# Altium integrated library Actel SX.IntLib: 328 symbols (part 16 of 24)
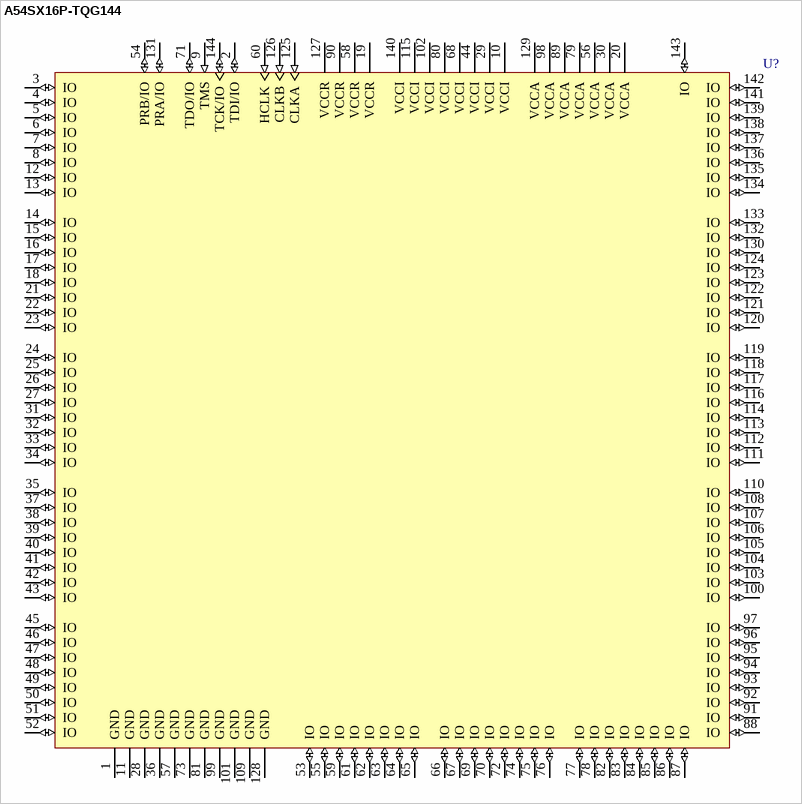
[diagram p247: symbol A54SX16P-TQG144]

## A54SX16P-TQG144
designator U?
54SX16 FPGA, 113 User IOs, 144-Pin TQFP, Speed Grade 1, Commercial Grade, Pb-Free; Note: Unused I/O Pins are automatically tristated by the Designer Series software.; Published: 11-Dec-2009; DatasheetVersion: v3.2, Jun-2006; PackageVersion: ver11.2, Nov-2009; PackageReference: TQ144; Publisher: Altium Limited; PackageDescription: 144-Pin Plastic Quad Flat Pack (TQ144); Code_JEDEC: MS-026-BFB; ComponentLink1Description: SX Datasheet; ComponentLink1URL: http://www.actel.com/documents/A54SX_DS.pdf; ComponentLink2Description: Package Mechanical Drawings; ComponentLink2URL: http://www.actel.com/documents/PckgMechDrwngs.pdf; ComponentLink3Description: SX Documents; ComponentLink3URL: http://www.actel.com/products/legacy/default.aspx#docs; ComponentLink4Description: Actel.com Home; ComponentLink4URL: http://www.actel.com/
footprint TQ144_N (Thin QFP, 144-Leads, Body 20x20mm, Pitch 0.5mm, IPC Medium Density)
footprint TQ144_L (Thin QFP, 144-Leads, Body 20x20mm, Pitch 0.5mm, IPC High Density)
footprint TQ144_M (Thin QFP, 144-Leads, Body 20x20mm, Pitch 0.5mm, IPC Low Density)
pins: 1 GND (power), 2 TDI/IO (io), 3 IO (io), 4 IO (io), 5 IO (io), 6 IO (io), 7 IO (io), 8 IO (io), 9 TMS (in), 10 VCCI (power), 11 GND (power), 12 IO (io), 13 IO (io), 14 IO (io), 15 IO (io), 16 IO (io), 17 IO (io), 18 IO (io), 19 VCCR (power), 20 VCCA (power), 21 IO (io), 22 IO (io), 23 IO (io), 24 IO (io), 25 IO (io), 26 IO (io), 27 IO (io), 28 GND (power), 29 VCCI (power), 30 VCCA (power), 31 IO (io), 32 IO (io), 33 IO (io), 34 IO (io), 35 IO (io), 36 GND (power), 37 IO (io), 38 IO (io), 39 IO (io), 40 IO (io), 41 IO (io), 42 IO (io), 43 IO (io), 44 VCCI (power), 45 IO (io), 46 IO (io), 47 IO (io), 48 IO (io), 49 IO (io), 50 IO (io), 51 IO (io), 52 IO (io), 53 IO (io), 54 PRB/IO (io), 55 IO (io), 56 VCCA (power), 57 GND (power), 58 VCCR (power), 59 IO (io), 60 HCLK (in), 61 IO (io), 62 IO (io), 63 IO (io), 64 IO (io), 65 IO (io), 66 IO (io), 67 IO (io), 68 VCCI (power), 69 IO (io), 70 IO (io), 71 TDO/IO (io), 72 IO (io), 73 GND (power), 74 IO (io), 75 IO (io), 76 IO (io), 77 IO (io), 78 IO (io), 79 VCCA (power), 80 VCCI (power), 81 GND (power), 82 IO (io), 83 IO (io), 84 IO (io), 85 IO (io), 86 IO (io), 87 IO (io), 88 IO (io), 89 VCCA (power), 90 VCCR (power), 91 IO (io), 92 IO (io), 93 IO (io), 94 IO (io), 95 IO (io), 96 IO (io), 97 IO (io), 98 VCCA (power), 99 GND (power), 100 IO (io), 101 GND (power), 102 VCCI (power), 103 IO (io), 104 IO (io), 105 IO (io), 106 IO (io), 107 IO (io), 108 IO (io), 109 GND (power), 110 IO (io), 111 IO (io), 112 IO (io), 113 IO (io), 114 IO (io), 115 VCCI (power), 116 IO (io), 117 IO (io), 118 IO (io), 119 IO (io), 120 IO (io), 121 IO (io), 122 IO (io), 123 IO (io), 124 IO (io), 125 CLKA (in), 126 CLKB (in), 127 VCCR (power), 128 GND (power), 129 VCCA (power), 130 IO (io), 131 PRA/IO (io), 132 IO (io), 133 IO (io), 134 IO (io), 135 IO (io), 136 IO (io), 137 IO (io), 138 IO (io), 139 IO (io), 140 VCCI (power), 141 IO (io), 142 IO (io), 143 IO (io), 144 TCK/IO (io)

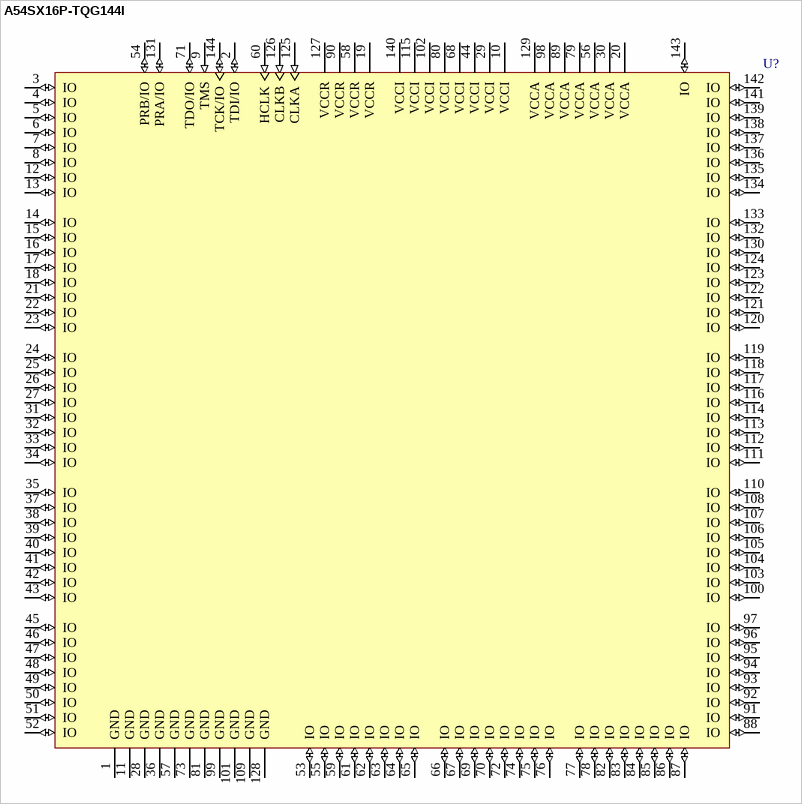
[diagram p141: symbol A54SX16P-TQG144I]

## A54SX16P-TQG144I
designator U?
54SX16 FPGA, 113 User IOs, 144-Pin TQFP, Speed Grade 1, Industrial Grade, Pb-Free; Note: Unused I/O Pins are automatically tristated by the Designer Series software.; Published: 11-Dec-2009; DatasheetVersion: v3.2, Jun-2006; PackageVersion: ver11.2, Nov-2009; PackageReference: TQ144; Publisher: Altium Limited; PackageDescription: 144-Pin Plastic Quad Flat Pack (TQ144); Code_JEDEC: MS-026-BFB; ComponentLink1Description: SX Datasheet; ComponentLink1URL: http://www.actel.com/documents/A54SX_DS.pdf; ComponentLink2Description: Package Mechanical Drawings; ComponentLink2URL: http://www.actel.com/documents/PckgMechDrwngs.pdf; ComponentLink3Description: SX Documents; ComponentLink3URL: http://www.actel.com/products/legacy/default.aspx#docs; ComponentLink4Description: Actel.com Home; ComponentLink4URL: http://www.actel.com/
footprint TQ144_N (Thin QFP, 144-Leads, Body 20x20mm, Pitch 0.5mm, IPC Medium Density)
footprint TQ144_L (Thin QFP, 144-Leads, Body 20x20mm, Pitch 0.5mm, IPC High Density)
footprint TQ144_M (Thin QFP, 144-Leads, Body 20x20mm, Pitch 0.5mm, IPC Low Density)
pins: 1 GND (power), 2 TDI/IO (io), 3 IO (io), 4 IO (io), 5 IO (io), 6 IO (io), 7 IO (io), 8 IO (io), 9 TMS (in), 10 VCCI (power), 11 GND (power), 12 IO (io), 13 IO (io), 14 IO (io), 15 IO (io), 16 IO (io), 17 IO (io), 18 IO (io), 19 VCCR (power), 20 VCCA (power), 21 IO (io), 22 IO (io), 23 IO (io), 24 IO (io), 25 IO (io), 26 IO (io), 27 IO (io), 28 GND (power), 29 VCCI (power), 30 VCCA (power), 31 IO (io), 32 IO (io), 33 IO (io), 34 IO (io), 35 IO (io), 36 GND (power), 37 IO (io), 38 IO (io), 39 IO (io), 40 IO (io), 41 IO (io), 42 IO (io), 43 IO (io), 44 VCCI (power), 45 IO (io), 46 IO (io), 47 IO (io), 48 IO (io), 49 IO (io), 50 IO (io), 51 IO (io), 52 IO (io), 53 IO (io), 54 PRB/IO (io), 55 IO (io), 56 VCCA (power), 57 GND (power), 58 VCCR (power), 59 IO (io), 60 HCLK (in), 61 IO (io), 62 IO (io), 63 IO (io), 64 IO (io), 65 IO (io), 66 IO (io), 67 IO (io), 68 VCCI (power), 69 IO (io), 70 IO (io), 71 TDO/IO (io), 72 IO (io), 73 GND (power), 74 IO (io), 75 IO (io), 76 IO (io), 77 IO (io), 78 IO (io), 79 VCCA (power), 80 VCCI (power), 81 GND (power), 82 IO (io), 83 IO (io), 84 IO (io), 85 IO (io), 86 IO (io), 87 IO (io), 88 IO (io), 89 VCCA (power), 90 VCCR (power), 91 IO (io), 92 IO (io), 93 IO (io), 94 IO (io), 95 IO (io), 96 IO (io), 97 IO (io), 98 VCCA (power), 99 GND (power), 100 IO (io), 101 GND (power), 102 VCCI (power), 103 IO (io), 104 IO (io), 105 IO (io), 106 IO (io), 107 IO (io), 108 IO (io), 109 GND (power), 110 IO (io), 111 IO (io), 112 IO (io), 113 IO (io), 114 IO (io), 115 VCCI (power), 116 IO (io), 117 IO (io), 118 IO (io), 119 IO (io), 120 IO (io), 121 IO (io), 122 IO (io), 123 IO (io), 124 IO (io), 125 CLKA (in), 126 CLKB (in), 127 VCCR (power), 128 GND (power), 129 VCCA (power), 130 IO (io), 131 PRA/IO (io), 132 IO (io), 133 IO (io), 134 IO (io), 135 IO (io), 136 IO (io), 137 IO (io), 138 IO (io), 139 IO (io), 140 VCCI (power), 141 IO (io), 142 IO (io), 143 IO (io), 144 TCK/IO (io)

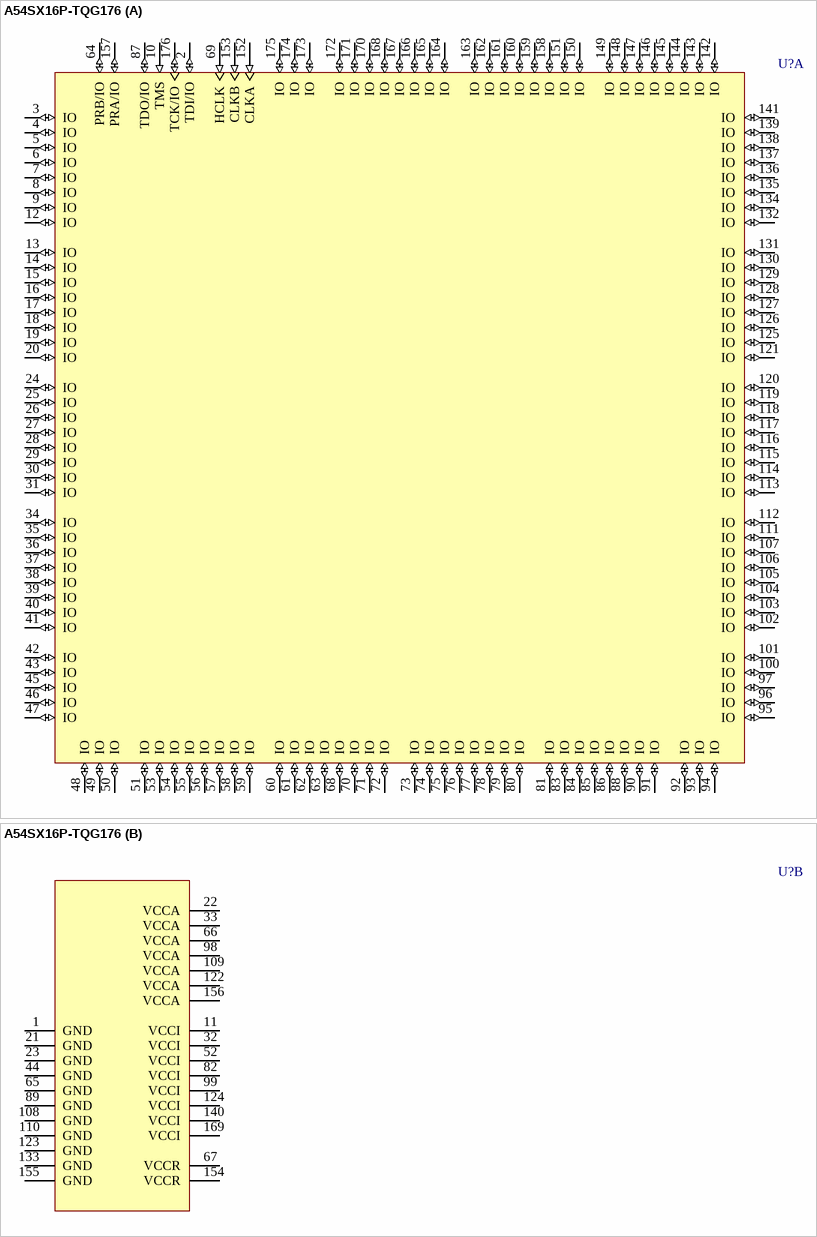
[diagram p142: symbol A54SX16P-TQG176]

## A54SX16P-TQG176
designator U?
54SX16 FPGA, 147 User IOs, 176-Pin TQFP, Speed Grade 1, Commercial Grade, Pb-Free; Note: Unused I/O Pins are automatically tristated by the Designer Series software.; Published: 11-Dec-2009; DatasheetVersion: v3.2, Jun-2006; PackageVersion: ver11.2, Nov-2009; PackageReference: TQ176; Publisher: Altium Limited; PackageDescription: 176-Pin Plastic Quad Flat Pack (TQ176); Code_JEDEC: MS-026-BCA; ComponentLink1Description: SX Datasheet; ComponentLink1URL: http://www.actel.com/documents/A54SX_DS.pdf; ComponentLink2Description: Package Mechanical Drawings; ComponentLink2URL: http://www.actel.com/documents/PckgMechDrwngs.pdf; ComponentLink3Description: SX Documents; ComponentLink3URL: http://www.actel.com/products/legacy/default.aspx#docs; ComponentLink4Description: Actel.com Home; ComponentLink4URL: http://www.actel.com/
footprint TQ176_N (Thin QFP, 176-Leads, Body 24x24mm, Pitch 0.5mm, IPC Medium Density)
footprint TQ176_L (Thin QFP, 176-Leads, Body 24x24mm, Pitch 0.5mm, IPC High Density)
footprint TQ176_M (Thin QFP, 176-Leads, Body 24x24mm, Pitch 0.5mm, IPC Low Density)
part A pins: 2 TDI/IO (io), 3 IO (io), 4 IO (io), 5 IO (io), 6 IO (io), 7 IO (io), 8 IO (io), 9 IO (io), 10 TMS (in), 12 IO (io), 13 IO (io), 14 IO (io), 15 IO (io), 16 IO (io), 17 IO (io), 18 IO (io), 19 IO (io), 20 IO (io), 24 IO (io), 25 IO (io), 26 IO (io), 27 IO (io), 28 IO (io), 29 IO (io), 30 IO (io), 31 IO (io), 34 IO (io), 35 IO (io), 36 IO (io), 37 IO (io), 38 IO (io), 39 IO (io), 40 IO (io), 41 IO (io), 42 IO (io), 43 IO (io), 45 IO (io), 46 IO (io), 47 IO (io), 48 IO (io), 49 IO (io), 50 IO (io), 51 IO (io), 53 IO (io), 54 IO (io), 55 IO (io), 56 IO (io), 57 IO (io), 58 IO (io), 59 IO (io), 60 IO (io), 61 IO (io), 62 IO (io), 63 IO (io), 64 PRB/IO (io), 68 IO (io), 69 HCLK (in), 70 IO (io), 71 IO (io), 72 IO (io), 73 IO (io), 74 IO (io), 75 IO (io), 76 IO (io), 77 IO (io), 78 IO (io), 79 IO (io), 80 IO (io), 81 IO (io), 83 IO (io), 84 IO (io), 85 IO (io), 86 IO (io), 87 TDO/IO (io), 88 IO (io), 90 IO (io), 91 IO (io), 92 IO (io), 93 IO (io), 94 IO (io), 95 IO (io), 96 IO (io), 97 IO (io), 100 IO (io), 101 IO (io), 102 IO (io), 103 IO (io), 104 IO (io), 105 IO (io), 106 IO (io), 107 IO (io), 111 IO (io), 112 IO (io), 113 IO (io), 114 IO (io), 115 IO (io), 116 IO (io), 117 IO (io), 118 IO (io), 119 IO (io), 120 IO (io), 121 IO (io), 125 IO (io), 126 IO (io), 127 IO (io), 128 IO (io), 129 IO (io), 130 IO (io), 131 IO (io), 132 IO (io), 134 IO (io), 135 IO (io), 136 IO (io), 137 IO (io), 138 IO (io), 139 IO (io), 141 IO (io), 142 IO (io), 143 IO (io), 144 IO (io), 145 IO (io), 146 IO (io), 147 IO (io), 148 IO (io), 149 IO (io), 150 IO (io), 151 IO (io), 152 CLKA (in), 153 CLKB (in), 157 PRA/IO (io), 158 IO (io), 159 IO (io), 160 IO (io), 161 IO (io), 162 IO (io), 163 IO (io), 164 IO (io), 165 IO (io), 166 IO (io), 167 IO (io), 168 IO (io), 170 IO (io), 171 IO (io), 172 IO (io), 173 IO (io), 174 IO (io), 175 IO (io), 176 TCK/IO (io)
part B pins: 1 GND (power), 11 VCCI (power), 21 GND (power), 22 VCCA (power), 23 GND (power), 32 VCCI (power), 33 VCCA (power), 44 GND (power), 52 VCCI (power), 65 GND (power), 66 VCCA (power), 67 VCCR (power), 82 VCCI (power), 89 GND (power), 98 VCCA (power), 99 VCCI (power), 108 GND (power), 109 VCCA (power), 110 GND (power), 122 VCCA (power), 123 GND (power), 124 VCCI (power), 133 GND (power), 140 VCCI (power), 154 VCCR (power), 155 GND (power), 156 VCCA (power), 169 VCCI (power)

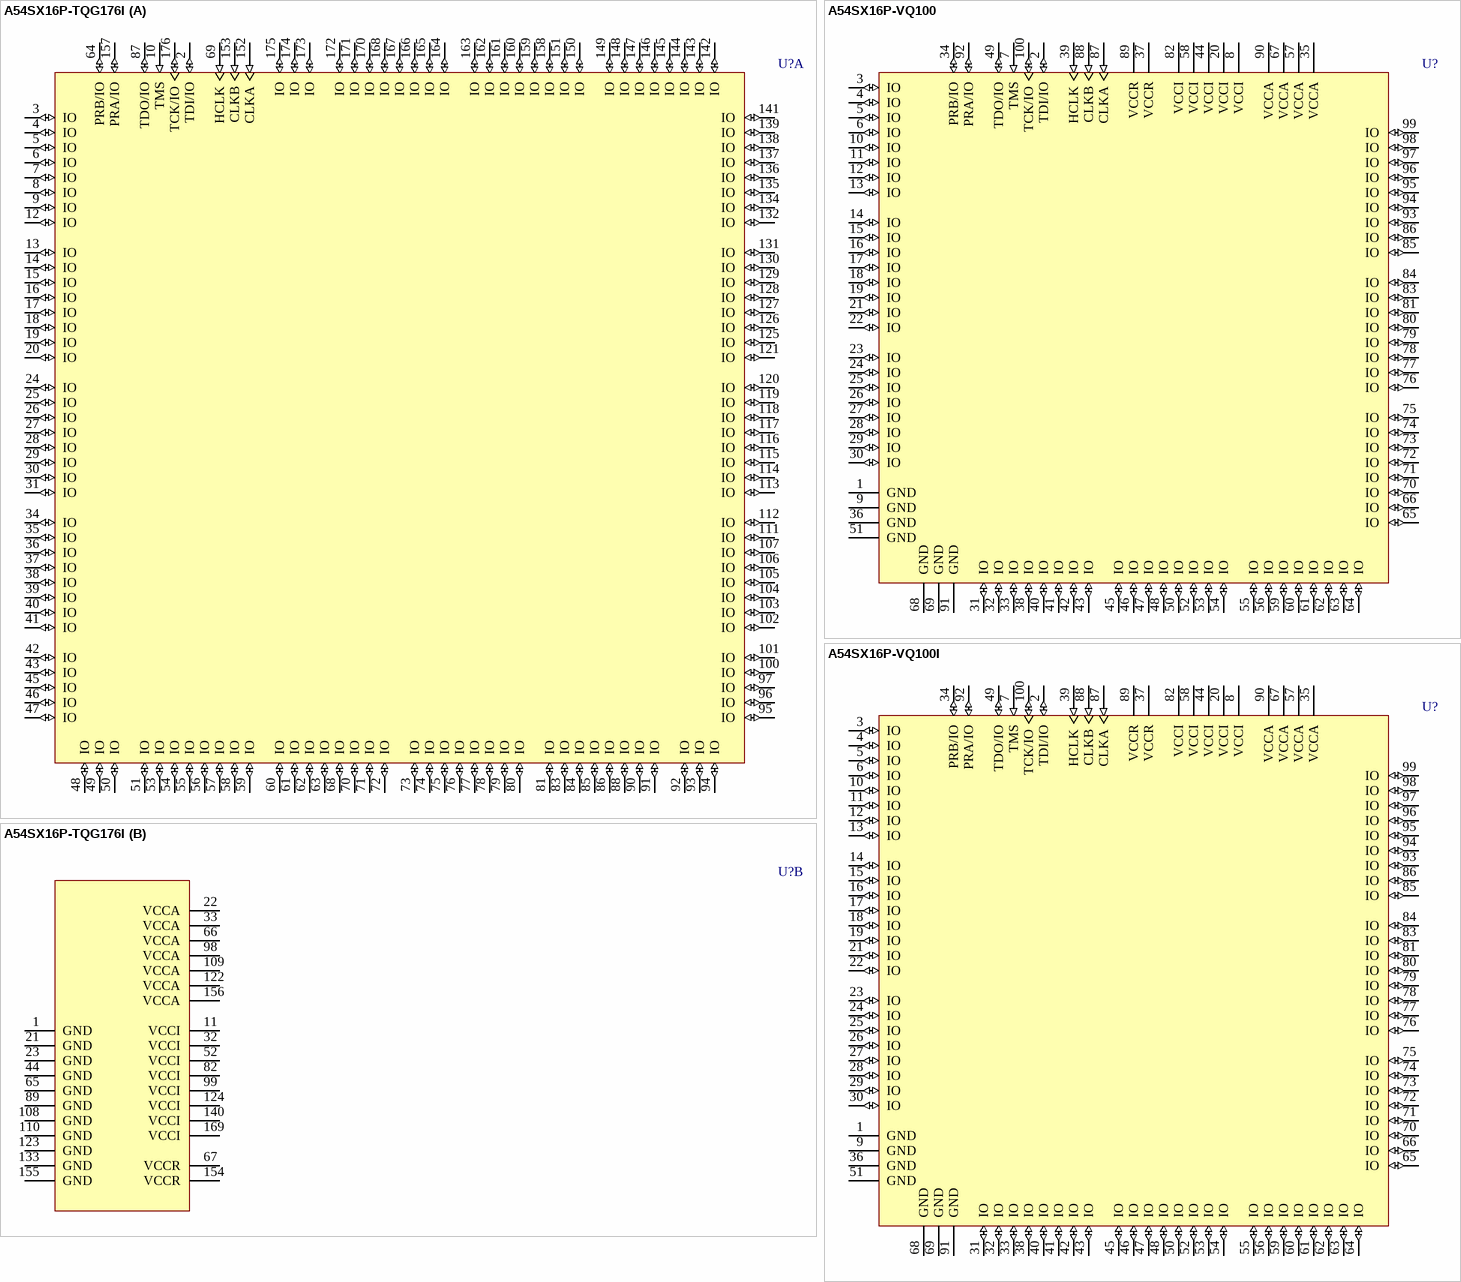
[diagram p143: symbols A54SX16P-TQG176I to A54SX16P-VQ100I]

## A54SX16P-TQG176I
designator U?
54SX16 FPGA, 147 User IOs, 176-Pin TQFP, Speed Grade 1, Industrial Grade, Pb-Free; Note: Unused I/O Pins are automatically tristated by the Designer Series software.; Published: 11-Dec-2009; DatasheetVersion: v3.2, Jun-2006; PackageVersion: ver11.2, Nov-2009; PackageReference: TQ176; Publisher: Altium Limited; PackageDescription: 176-Pin Plastic Quad Flat Pack (TQ176); Code_JEDEC: MS-026-BCA; ComponentLink1Description: SX Datasheet; ComponentLink1URL: http://www.actel.com/documents/A54SX_DS.pdf; ComponentLink2Description: Package Mechanical Drawings; ComponentLink2URL: http://www.actel.com/documents/PckgMechDrwngs.pdf; ComponentLink3Description: SX Documents; ComponentLink3URL: http://www.actel.com/products/legacy/default.aspx#docs; ComponentLink4Description: Actel.com Home; ComponentLink4URL: http://www.actel.com/
footprint TQ176_N (Thin QFP, 176-Leads, Body 24x24mm, Pitch 0.5mm, IPC Medium Density)
footprint TQ176_L (Thin QFP, 176-Leads, Body 24x24mm, Pitch 0.5mm, IPC High Density)
footprint TQ176_M (Thin QFP, 176-Leads, Body 24x24mm, Pitch 0.5mm, IPC Low Density)
part A pins: 2 TDI/IO (io), 3 IO (io), 4 IO (io), 5 IO (io), 6 IO (io), 7 IO (io), 8 IO (io), 9 IO (io), 10 TMS (in), 12 IO (io), 13 IO (io), 14 IO (io), 15 IO (io), 16 IO (io), 17 IO (io), 18 IO (io), 19 IO (io), 20 IO (io), 24 IO (io), 25 IO (io), 26 IO (io), 27 IO (io), 28 IO (io), 29 IO (io), 30 IO (io), 31 IO (io), 34 IO (io), 35 IO (io), 36 IO (io), 37 IO (io), 38 IO (io), 39 IO (io), 40 IO (io), 41 IO (io), 42 IO (io), 43 IO (io), 45 IO (io), 46 IO (io), 47 IO (io), 48 IO (io), 49 IO (io), 50 IO (io), 51 IO (io), 53 IO (io), 54 IO (io), 55 IO (io), 56 IO (io), 57 IO (io), 58 IO (io), 59 IO (io), 60 IO (io), 61 IO (io), 62 IO (io), 63 IO (io), 64 PRB/IO (io), 68 IO (io), 69 HCLK (in), 70 IO (io), 71 IO (io), 72 IO (io), 73 IO (io), 74 IO (io), 75 IO (io), 76 IO (io), 77 IO (io), 78 IO (io), 79 IO (io), 80 IO (io), 81 IO (io), 83 IO (io), 84 IO (io), 85 IO (io), 86 IO (io), 87 TDO/IO (io), 88 IO (io), 90 IO (io), 91 IO (io), 92 IO (io), 93 IO (io), 94 IO (io), 95 IO (io), 96 IO (io), 97 IO (io), 100 IO (io), 101 IO (io), 102 IO (io), 103 IO (io), 104 IO (io), 105 IO (io), 106 IO (io), 107 IO (io), 111 IO (io), 112 IO (io), 113 IO (io), 114 IO (io), 115 IO (io), 116 IO (io), 117 IO (io), 118 IO (io), 119 IO (io), 120 IO (io), 121 IO (io), 125 IO (io), 126 IO (io), 127 IO (io), 128 IO (io), 129 IO (io), 130 IO (io), 131 IO (io), 132 IO (io), 134 IO (io), 135 IO (io), 136 IO (io), 137 IO (io), 138 IO (io), 139 IO (io), 141 IO (io), 142 IO (io), 143 IO (io), 144 IO (io), 145 IO (io), 146 IO (io), 147 IO (io), 148 IO (io), 149 IO (io), 150 IO (io), 151 IO (io), 152 CLKA (in), 153 CLKB (in), 157 PRA/IO (io), 158 IO (io), 159 IO (io), 160 IO (io), 161 IO (io), 162 IO (io), 163 IO (io), 164 IO (io), 165 IO (io), 166 IO (io), 167 IO (io), 168 IO (io), 170 IO (io), 171 IO (io), 172 IO (io), 173 IO (io), 174 IO (io), 175 IO (io), 176 TCK/IO (io)
part B pins: 1 GND (power), 11 VCCI (power), 21 GND (power), 22 VCCA (power), 23 GND (power), 32 VCCI (power), 33 VCCA (power), 44 GND (power), 52 VCCI (power), 65 GND (power), 66 VCCA (power), 67 VCCR (power), 82 VCCI (power), 89 GND (power), 98 VCCA (power), 99 VCCI (power), 108 GND (power), 109 VCCA (power), 110 GND (power), 122 VCCA (power), 123 GND (power), 124 VCCI (power), 133 GND (power), 140 VCCI (power), 154 VCCR (power), 155 GND (power), 156 VCCA (power), 169 VCCI (power)

## A54SX16P-VQ100
designator U?
54SX16 FPGA, 81 User IOs, 100-Pin VQFP, Speed Grade 1, Commercial Grade; Note: Unused I/O Pins are automatically tristated by the Designer Series software.; Published: 21-May-2003; LatestRevisionDate: 11-Dec-2009; LatestRevisionNote: Updated to datasheet version 3.2 Jun-2006.; DatasheetVersion: v3.2, Jun-2006; PackageVersion: ver11.2, Nov-2009; PackageReference: VQ100; Publisher: Altium Limited; PackageDescription: 100-Pin Plastic Quad Flat Pack (VQ100); Code_JEDEC: MS-026-AED; ComponentLink1Description: SX Datasheet; ComponentLink1URL: http://www.actel.com/documents/A54SX_DS.pdf; ComponentLink2Description: Package Mechanical Drawings; ComponentLink2URL: http://www.actel.com/documents/PckgMechDrwngs.pdf; ComponentLink3Description: SX Documents; ComponentLink3URL: http://www.actel.com/products/legacy/default.aspx#docs; ComponentLink4Description: Actel.com Home; ComponentLink4URL: http://www.actel.com/
footprint VQ100_N (Thin QFP, 100-Leads, Body 14x14mm, Pitch 0.5mm, IPC Medium Density)
footprint VQ100_L (Thin QFP, 100-Leads, Body 14x14mm, Pitch 0.5mm, IPC High Density)
footprint VQ100_M (Thin QFP, 100-Leads, Body 14x14mm, Pitch 0.5mm, IPC Low Density)
pins: 1 GND (power), 2 TDI/IO (io), 3 IO (io), 4 IO (io), 5 IO (io), 6 IO (io), 7 TMS (in), 8 VCCI (power), 9 GND (power), 10 IO (io), 11 IO (io), 12 IO (io), 13 IO (io), 14 IO (io), 15 IO (io), 16 IO (io), 17 IO (io), 18 IO (io), 19 IO (io), 20 VCCI (power), 21 IO (io), 22 IO (io), 23 IO (io), 24 IO (io), 25 IO (io), 26 IO (io), 27 IO (io), 28 IO (io), 29 IO (io), 30 IO (io), 31 IO (io), 32 IO (io), 33 IO (io), 34 PRB/IO (io), 35 VCCA (power), 36 GND (power), 37 VCCR (power), 38 IO (io), 39 HCLK (in), 40 IO (io), 41 IO (io), 42 IO (io), 43 IO (io), 44 VCCI (power), 45 IO (io), 46 IO (io), 47 IO (io), 48 IO (io), 49 TDO/IO (io), 50 IO (io), 51 GND (power), 52 IO (io), 53 IO (io), 54 IO (io), 55 IO (io), 56 IO (io), 57 VCCA (power), 58 VCCI (power), 59 IO (io), 60 IO (io), 61 IO (io), 62 IO (io), 63 IO (io), 64 IO (io), 65 IO (io), 66 IO (io), 67 VCCA (power), 68 GND (power), 69 GND (power), 70 IO (io), 71 IO (io), 72 IO (io), 73 IO (io), 74 IO (io), 75 IO (io), 76 IO (io), 77 IO (io), 78 IO (io), 79 IO (io), 80 IO (io), 81 IO (io), 82 VCCI (power), 83 IO (io), 84 IO (io), 85 IO (io), 86 IO (io), 87 CLKA (in), 88 CLKB (in), 89 VCCR (power), 90 VCCA (power), 91 GND (power), 92 PRA/IO (io), 93 IO (io), 94 IO (io), 95 IO (io), 96 IO (io), 97 IO (io), 98 IO (io), 99 IO (io), 100 TCK/IO (io)

## A54SX16P-VQ100I
designator U?
54SX16 FPGA, 81 User IOs, 100-Pin VQFP, Speed Grade 1, Industrial Grade; Note: Unused I/O Pins are automatically tristated by the Designer Series software.; Published: 21-May-2003; LatestRevisionDate: 11-Dec-2009; LatestRevisionNote: Updated to datasheet version 3.2 Jun-2006.; DatasheetVersion: v3.2, Jun-2006; PackageVersion: ver11.2, Nov-2009; PackageReference: VQ100; Publisher: Altium Limited; PackageDescription: 100-Pin Plastic Quad Flat Pack (VQ100); Code_JEDEC: MS-026-AED; ComponentLink1Description: SX Datasheet; ComponentLink1URL: http://www.actel.com/documents/A54SX_DS.pdf; ComponentLink2Description: Package Mechanical Drawings; ComponentLink2URL: http://www.actel.com/documents/PckgMechDrwngs.pdf; ComponentLink3Description: SX Documents; ComponentLink3URL: http://www.actel.com/products/legacy/default.aspx#docs; ComponentLink4Description: Actel.com Home; ComponentLink4URL: http://www.actel.com/
footprint VQ100_N (Thin QFP, 100-Leads, Body 14x14mm, Pitch 0.5mm, IPC Medium Density)
footprint VQ100_L (Thin QFP, 100-Leads, Body 14x14mm, Pitch 0.5mm, IPC High Density)
footprint VQ100_M (Thin QFP, 100-Leads, Body 14x14mm, Pitch 0.5mm, IPC Low Density)
pins: 1 GND (power), 2 TDI/IO (io), 3 IO (io), 4 IO (io), 5 IO (io), 6 IO (io), 7 TMS (in), 8 VCCI (power), 9 GND (power), 10 IO (io), 11 IO (io), 12 IO (io), 13 IO (io), 14 IO (io), 15 IO (io), 16 IO (io), 17 IO (io), 18 IO (io), 19 IO (io), 20 VCCI (power), 21 IO (io), 22 IO (io), 23 IO (io), 24 IO (io), 25 IO (io), 26 IO (io), 27 IO (io), 28 IO (io), 29 IO (io), 30 IO (io), 31 IO (io), 32 IO (io), 33 IO (io), 34 PRB/IO (io), 35 VCCA (power), 36 GND (power), 37 VCCR (power), 38 IO (io), 39 HCLK (in), 40 IO (io), 41 IO (io), 42 IO (io), 43 IO (io), 44 VCCI (power), 45 IO (io), 46 IO (io), 47 IO (io), 48 IO (io), 49 TDO/IO (io), 50 IO (io), 51 GND (power), 52 IO (io), 53 IO (io), 54 IO (io), 55 IO (io), 56 IO (io), 57 VCCA (power), 58 VCCI (power), 59 IO (io), 60 IO (io), 61 IO (io), 62 IO (io), 63 IO (io), 64 IO (io), 65 IO (io), 66 IO (io), 67 VCCA (power), 68 GND (power), 69 GND (power), 70 IO (io), 71 IO (io), 72 IO (io), 73 IO (io), 74 IO (io), 75 IO (io), 76 IO (io), 77 IO (io), 78 IO (io), 79 IO (io), 80 IO (io), 81 IO (io), 82 VCCI (power), 83 IO (io), 84 IO (io), 85 IO (io), 86 IO (io), 87 CLKA (in), 88 CLKB (in), 89 VCCR (power), 90 VCCA (power), 91 GND (power), 92 PRA/IO (io), 93 IO (io), 94 IO (io), 95 IO (io), 96 IO (io), 97 IO (io), 98 IO (io), 99 IO (io), 100 TCK/IO (io)

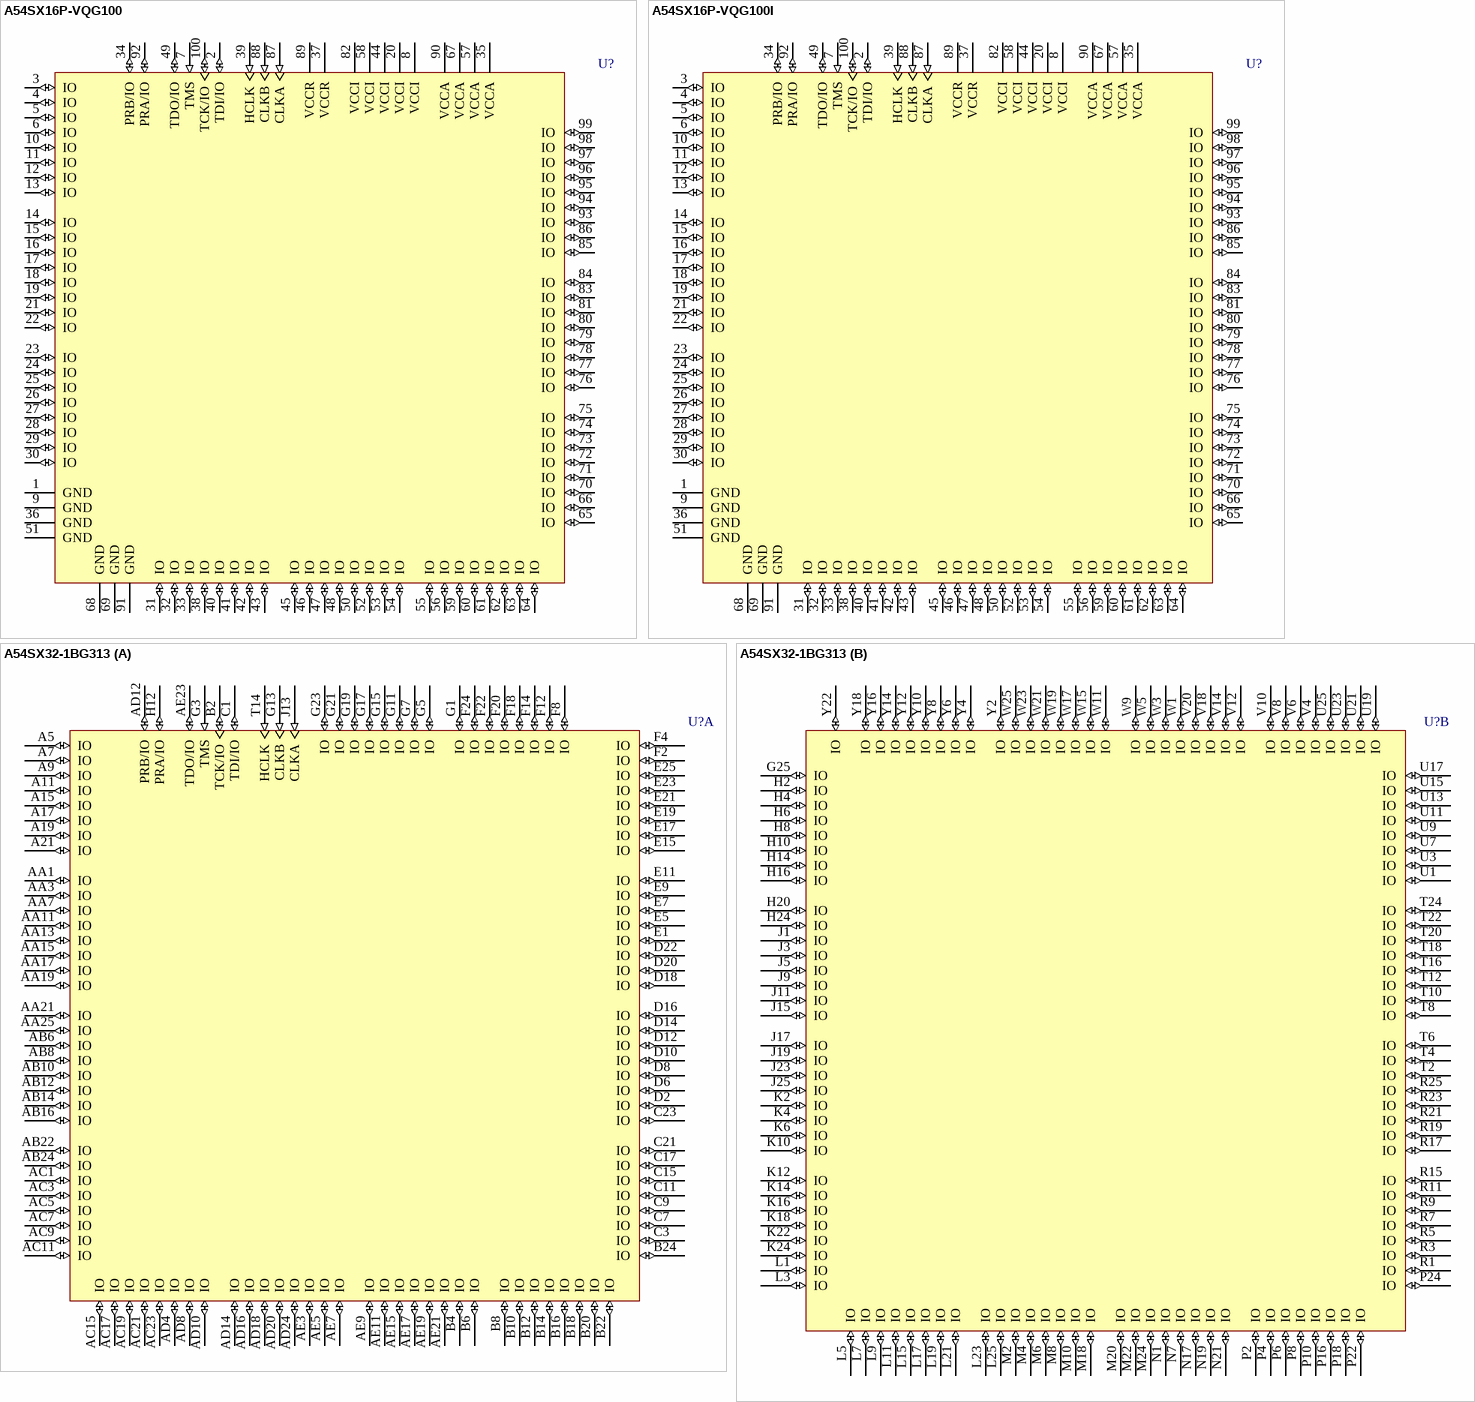
[diagram p144: symbols A54SX16P-VQG100 to A54SX32-1BG313]

## A54SX16P-VQG100
designator U?
54SX16 FPGA, 81 User IOs, 100-Pin VQFP, Speed Grade 1, Commercial Grade, Pb-Free; Note: Unused I/O Pins are automatically tristated by the Designer Series software.; Published: 11-Dec-2009; DatasheetVersion: v3.2, Jun-2006; PackageVersion: ver11.2, Nov-2009; PackageReference: VQ100; Publisher: Altium Limited; PackageDescription: 100-Pin Plastic Quad Flat Pack (VQ100); Code_JEDEC: MS-026-AED; ComponentLink1Description: SX Datasheet; ComponentLink1URL: http://www.actel.com/documents/A54SX_DS.pdf; ComponentLink2Description: Package Mechanical Drawings; ComponentLink2URL: http://www.actel.com/documents/PckgMechDrwngs.pdf; ComponentLink3Description: SX Documents; ComponentLink3URL: http://www.actel.com/products/legacy/default.aspx#docs; ComponentLink4Description: Actel.com Home; ComponentLink4URL: http://www.actel.com/
footprint VQ100_N (Thin QFP, 100-Leads, Body 14x14mm, Pitch 0.5mm, IPC Medium Density)
footprint VQ100_L (Thin QFP, 100-Leads, Body 14x14mm, Pitch 0.5mm, IPC High Density)
footprint VQ100_M (Thin QFP, 100-Leads, Body 14x14mm, Pitch 0.5mm, IPC Low Density)
pins: 1 GND (power), 2 TDI/IO (io), 3 IO (io), 4 IO (io), 5 IO (io), 6 IO (io), 7 TMS (in), 8 VCCI (power), 9 GND (power), 10 IO (io), 11 IO (io), 12 IO (io), 13 IO (io), 14 IO (io), 15 IO (io), 16 IO (io), 17 IO (io), 18 IO (io), 19 IO (io), 20 VCCI (power), 21 IO (io), 22 IO (io), 23 IO (io), 24 IO (io), 25 IO (io), 26 IO (io), 27 IO (io), 28 IO (io), 29 IO (io), 30 IO (io), 31 IO (io), 32 IO (io), 33 IO (io), 34 PRB/IO (io), 35 VCCA (power), 36 GND (power), 37 VCCR (power), 38 IO (io), 39 HCLK (in), 40 IO (io), 41 IO (io), 42 IO (io), 43 IO (io), 44 VCCI (power), 45 IO (io), 46 IO (io), 47 IO (io), 48 IO (io), 49 TDO/IO (io), 50 IO (io), 51 GND (power), 52 IO (io), 53 IO (io), 54 IO (io), 55 IO (io), 56 IO (io), 57 VCCA (power), 58 VCCI (power), 59 IO (io), 60 IO (io), 61 IO (io), 62 IO (io), 63 IO (io), 64 IO (io), 65 IO (io), 66 IO (io), 67 VCCA (power), 68 GND (power), 69 GND (power), 70 IO (io), 71 IO (io), 72 IO (io), 73 IO (io), 74 IO (io), 75 IO (io), 76 IO (io), 77 IO (io), 78 IO (io), 79 IO (io), 80 IO (io), 81 IO (io), 82 VCCI (power), 83 IO (io), 84 IO (io), 85 IO (io), 86 IO (io), 87 CLKA (in), 88 CLKB (in), 89 VCCR (power), 90 VCCA (power), 91 GND (power), 92 PRA/IO (io), 93 IO (io), 94 IO (io), 95 IO (io), 96 IO (io), 97 IO (io), 98 IO (io), 99 IO (io), 100 TCK/IO (io)

## A54SX16P-VQG100I
designator U?
54SX16 FPGA, 81 User IOs, 100-Pin VQFP, Speed Grade 1, Industrial Grade, Pb-Free; Note: Unused I/O Pins are automatically tristated by the Designer Series software.; Published: 11-Dec-2009; DatasheetVersion: v3.2, Jun-2006; PackageVersion: ver11.2, Nov-2009; PackageReference: VQ100; Publisher: Altium Limited; PackageDescription: 100-Pin Plastic Quad Flat Pack (VQ100); Code_JEDEC: MS-026-AED; ComponentLink1Description: SX Datasheet; ComponentLink1URL: http://www.actel.com/documents/A54SX_DS.pdf; ComponentLink2Description: Package Mechanical Drawings; ComponentLink2URL: http://www.actel.com/documents/PckgMechDrwngs.pdf; ComponentLink3Description: SX Documents; ComponentLink3URL: http://www.actel.com/products/legacy/default.aspx#docs; ComponentLink4Description: Actel.com Home; ComponentLink4URL: http://www.actel.com/
footprint VQ100_N (Thin QFP, 100-Leads, Body 14x14mm, Pitch 0.5mm, IPC Medium Density)
footprint VQ100_L (Thin QFP, 100-Leads, Body 14x14mm, Pitch 0.5mm, IPC High Density)
footprint VQ100_M (Thin QFP, 100-Leads, Body 14x14mm, Pitch 0.5mm, IPC Low Density)
pins: 1 GND (power), 2 TDI/IO (io), 3 IO (io), 4 IO (io), 5 IO (io), 6 IO (io), 7 TMS (in), 8 VCCI (power), 9 GND (power), 10 IO (io), 11 IO (io), 12 IO (io), 13 IO (io), 14 IO (io), 15 IO (io), 16 IO (io), 17 IO (io), 18 IO (io), 19 IO (io), 20 VCCI (power), 21 IO (io), 22 IO (io), 23 IO (io), 24 IO (io), 25 IO (io), 26 IO (io), 27 IO (io), 28 IO (io), 29 IO (io), 30 IO (io), 31 IO (io), 32 IO (io), 33 IO (io), 34 PRB/IO (io), 35 VCCA (power), 36 GND (power), 37 VCCR (power), 38 IO (io), 39 HCLK (in), 40 IO (io), 41 IO (io), 42 IO (io), 43 IO (io), 44 VCCI (power), 45 IO (io), 46 IO (io), 47 IO (io), 48 IO (io), 49 TDO/IO (io), 50 IO (io), 51 GND (power), 52 IO (io), 53 IO (io), 54 IO (io), 55 IO (io), 56 IO (io), 57 VCCA (power), 58 VCCI (power), 59 IO (io), 60 IO (io), 61 IO (io), 62 IO (io), 63 IO (io), 64 IO (io), 65 IO (io), 66 IO (io), 67 VCCA (power), 68 GND (power), 69 GND (power), 70 IO (io), 71 IO (io), 72 IO (io), 73 IO (io), 74 IO (io), 75 IO (io), 76 IO (io), 77 IO (io), 78 IO (io), 79 IO (io), 80 IO (io), 81 IO (io), 82 VCCI (power), 83 IO (io), 84 IO (io), 85 IO (io), 86 IO (io), 87 CLKA (in), 88 CLKB (in), 89 VCCR (power), 90 VCCA (power), 91 GND (power), 92 PRA/IO (io), 93 IO (io), 94 IO (io), 95 IO (io), 96 IO (io), 97 IO (io), 98 IO (io), 99 IO (io), 100 TCK/IO (io)

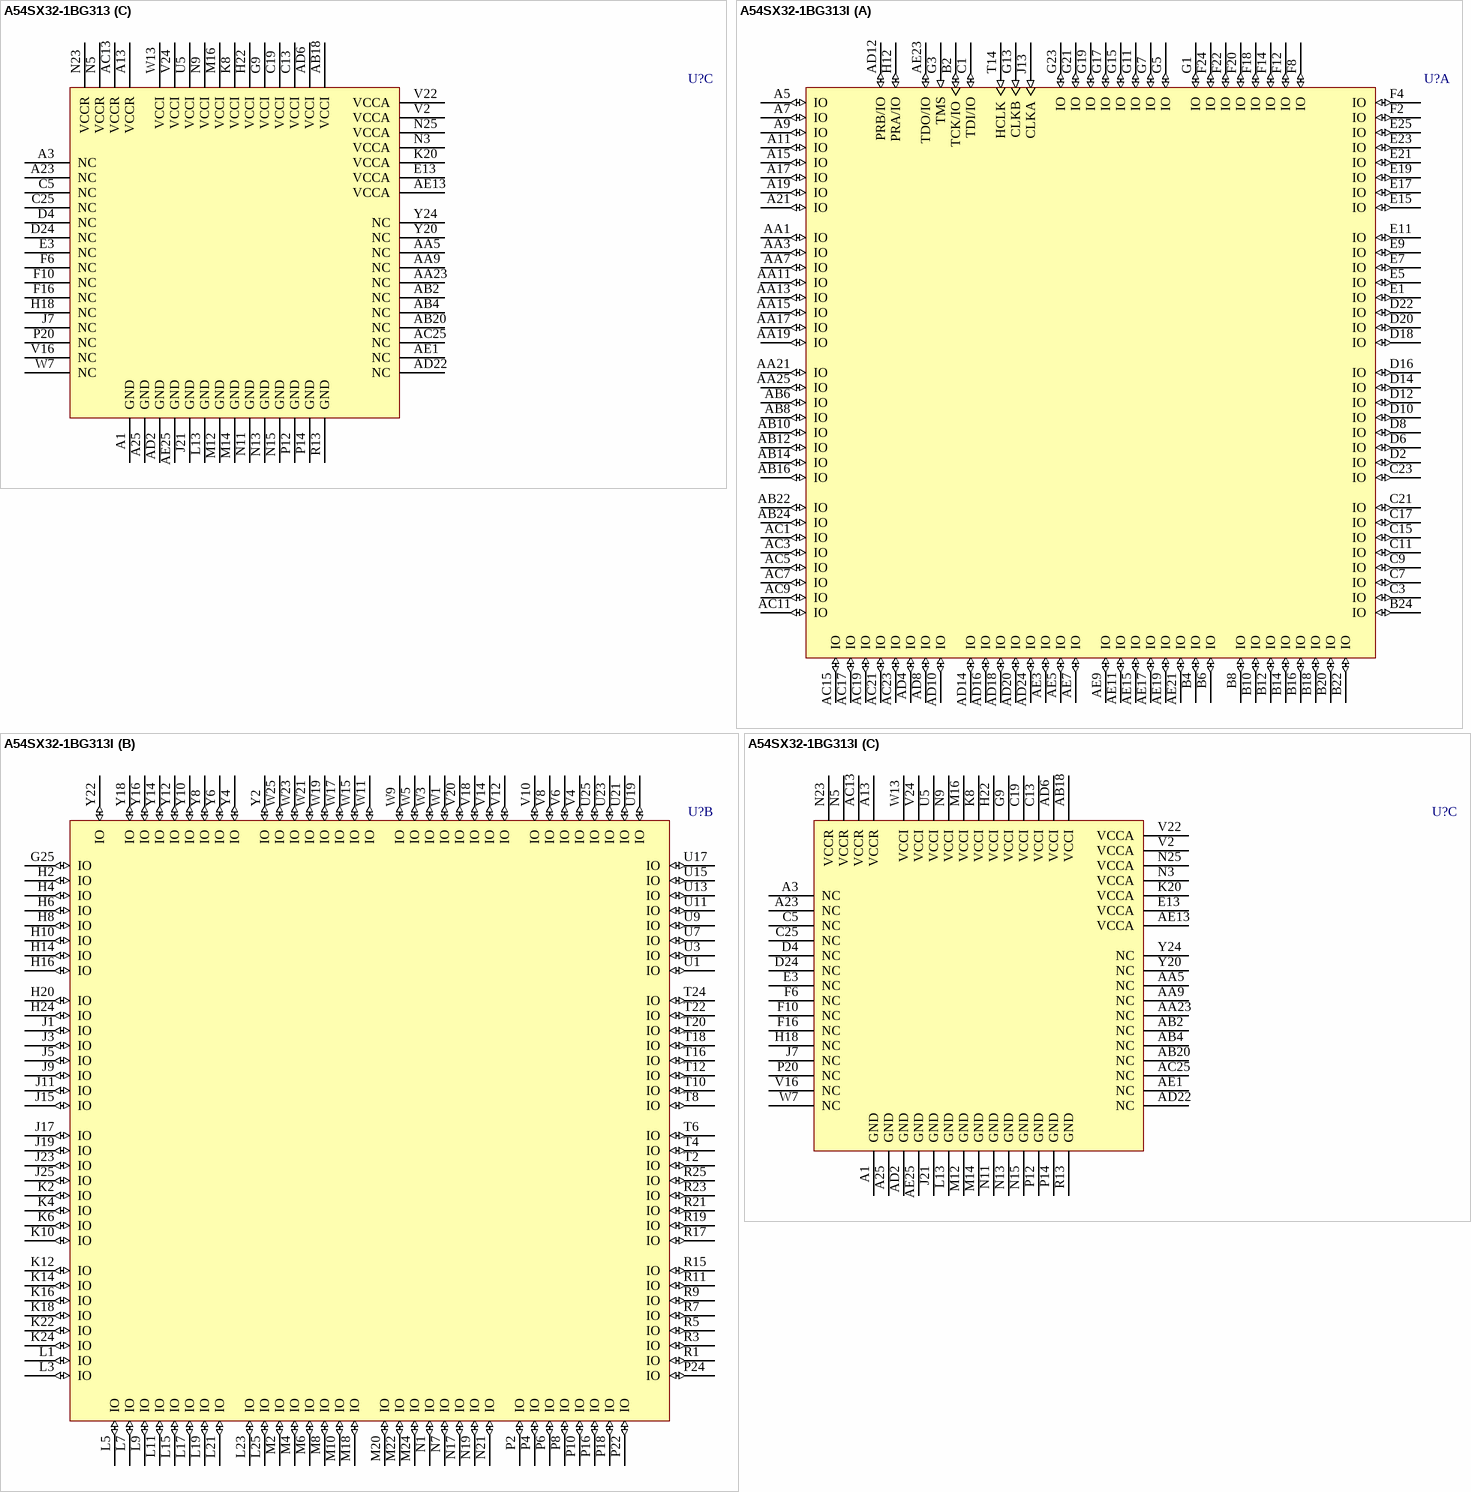
[diagram p145: symbols A54SX32-1BG313 to A54SX32-1BG313I]

## A54SX32-1BG313
designator U?
54SX32 FPGA, 249 User IOs, 313-Pin PBGA, Speed Grade 1, Commercial Grade; Note: Unused I/O Pins are automatically tristated by the Designer Series software.; Published: 21-May-2003; LatestRevisionDate: 11-Dec-2009; LatestRevisionNote: Updated to datasheet version 3.2 Jun-2006.; DatasheetVersion: v3.2, Jun-2006; PackageVersion: ver11.2, Nov-2009; PackageReference: BG313; Publisher: Altium Limited; PackageDescription: 313-Ball Staggered Plastic Ball Grid Array (BG313); Code_JEDEC: MS-034; ComponentLink1Description: SX Datasheet; ComponentLink1URL: http://www.actel.com/documents/A54SX_DS.pdf; ComponentLink2Description: Package Mechanical Drawings; ComponentLink2URL: http://www.actel.com/documents/PckgMechDrwngs.pdf; ComponentLink3Description: SX Documents; ComponentLink3URL: http://www.actel.com/products/legacy/default.aspx#docs; ComponentLink4Description: Actel.com Home; ComponentLink4URL: http://www.actel.com/
footprint BG313 (BGA, Staggered, 313-Leads, Body 35x35mm, Pitch 1.27mm)
part A pins: A5 IO (io), A7 IO (io), A9 IO (io), A11 IO (io), A15 IO (io), A17 IO (io), A19 IO (io), A21 IO (io), AA1 IO (io), AA3 IO (io), AA7 IO (io), AA11 IO (io), AA13 IO (io), AA15 IO (io), AA17 IO (io), AA19 IO (io), AA21 IO (io), AA25 IO (io), AB6 IO (io), AB8 IO (io), AB10 IO (io), AB12 IO (io), AB14 IO (io), AB16 IO (io), AB22 IO (io), AB24 IO (io), AC1 IO (io), AC3 IO (io), AC5 IO (io), AC7 IO (io), AC9 IO (io), AC11 IO (io), AC15 IO (io), AC17 IO (io), AC19 IO (io), AC21 IO (io), AC23 IO (io), AD4 IO (io), AD8 IO (io), AD10 IO (io), AD12 PRB/IO (io), AD14 IO (io), AD16 IO (io), AD18 IO (io), AD20 IO (io), AD24 IO (io), AE3 IO (io), AE5 IO (io), AE7 IO (io), AE9 IO (io), AE11 IO (io), AE15 IO (io), AE17 IO (io), AE19 IO (io), AE21 IO (io), AE23 TDO/IO (io), B2 TCK/IO (io), B4 IO (io), B6 IO (io), B8 IO (io), B10 IO (io), B12 IO (io), B14 IO (io), B16 IO (io), B18 IO (io), B20 IO (io), B22 IO (io), B24 IO (io), C1 TDI/IO (io), C3 IO (io), C7 IO (io), C9 IO (io), C11 IO (io), C15 IO (io), C17 IO (io), C21 IO (io), C23 IO (io), D2 IO (io), D6 IO (io), D8 IO (io), D10 IO (io), D12 IO (io), D14 IO (io), D16 IO (io), D18 IO (io), D20 IO (io), D22 IO (io), E1 IO (io), E5 IO (io), E7 IO (io), E9 IO (io), E11 IO (io), E15 IO (io), E17 IO (io), E19 IO (io), E21 IO (io), E23 IO (io), E25 IO (io), F2 IO (io), F4 IO (io), F8 IO (io), F12 IO (io), F14 IO (io), F18 IO (io), F20 IO (io), F22 IO (io), F24 IO (io), G1 IO (io), G3 TMS (in), G5 IO (io), G7 IO (io), G11 IO (io), G13 CLKB (in), G15 IO (io), G17 IO (io), G19 IO (io), G21 IO (io), G23 IO (io), H12 PRA/IO (io), J13 CLKA (in), T14 HCLK (in)
part B pins: G25 IO (io), H2 IO (io), H4 IO (io), H6 IO (io), H8 IO (io), H10 IO (io), H14 IO (io), H16 IO (io), H20 IO (io), H24 IO (io), J1 IO (io), J3 IO (io), J5 IO (io), J9 IO (io), J11 IO (io), J15 IO (io), J17 IO (io), J19 IO (io), J23 IO (io), J25 IO (io), K2 IO (io), K4 IO (io), K6 IO (io), K10 IO (io), K12 IO (io), K14 IO (io), K16 IO (io), K18 IO (io), K22 IO (io), K24 IO (io), L1 IO (io), L3 IO (io), L5 IO (io), L7 IO (io), L9 IO (io), L11 IO (io), L15 IO (io), L17 IO (io), L19 IO (io), L21 IO (io), L23 IO (io), L25 IO (io), M2 IO (io), M4 IO (io), M6 IO (io), M8 IO (io), M10 IO (io), M18 IO (io), M20 IO (io), M22 IO (io), M24 IO (io), N1 IO (io), N7 IO (io), N17 IO (io), N19 IO (io), N21 IO (io), P2 IO (io), P4 IO (io), P6 IO (io), P8 IO (io), P10 IO (io), P16 IO (io), P18 IO (io), P22 IO (io), P24 IO (io), R1 IO (io), R3 IO (io), R5 IO (io), R7 IO (io), R9 IO (io), R11 IO (io), R15 IO (io), R17 IO (io), R19 IO (io), R21 IO (io), R23 IO (io), R25 IO (io), T2 IO (io), T4 IO (io), T6 IO (io), T8 IO (io), T10 IO (io), T12 IO (io), T16 IO (io), T18 IO (io), T20 IO (io), T22 IO (io), T24 IO (io), U1 IO (io), U3 IO (io), U7 IO (io), U9 IO (io), U11 IO (io), U13 IO (io), U15 IO (io), U17 IO (io), U19 IO (io), U21 IO (io), U23 IO (io), U25 IO (io), V4 IO (io), V6 IO (io), V8 IO (io), V10 IO (io), V12 IO (io), V14 IO (io), V18 IO (io), V20 IO (io), W1 IO (io), W3 IO (io), W5 IO (io), W9 IO (io), W11 IO (io), W15 IO (io), W17 IO (io), W19 IO (io), W21 IO (io), W23 IO (io), W25 IO (io), Y2 IO (io), Y4 IO (io), Y6 IO (io), Y8 IO (io), Y10 IO (io), Y12 IO (io), Y14 IO (io), Y16 IO (io), Y18 IO (io), Y22 IO (io)
part C pins: A1 GND (power), A3 NC, A13 VCCR (power), A23 NC, A25 GND (power), AA5 NC, AA9 NC, AA23 NC, AB2 NC, AB4 NC, AB18 VCCI (power), AB20 NC, AC13 VCCR (power), AC25 NC, AD2 GND (power), AD6 VCCI (power), AD22 NC, AE1 NC, AE13 VCCA (power), AE25 GND (power), C5 NC, C13 VCCI (power), C19 VCCI (power), C25 NC, D4 NC, D24 NC, E3 NC, E13 VCCA (power), F6 NC, F10 NC, F16 NC, G9 VCCI (power), H18 NC, H22 VCCI (power), J7 NC, J21 GND (power), K8 VCCI (power), K20 VCCA (power), L13 GND (power), M12 GND (power), M14 GND (power), M16 VCCI (power), N3 VCCA (power), N5 VCCR (power), N9 VCCI (power), N11 GND (power), N13 GND (power), N15 GND (power), N23 VCCR (power), N25 VCCA (power), P12 GND (power), P14 GND (power), P20 NC, R13 GND (power), U5 VCCI (power), V2 VCCA (power), V16 NC, V22 VCCA (power), V24 VCCI (power), W7 NC, W13 VCCI (power), Y20 NC, Y24 NC

## A54SX32-1BG313I
designator U?
54SX32 FPGA, 249 User IOs, 313-Pin PBGA, Speed Grade 1, Industrial Grade; Note: Unused I/O Pins are automatically tristated by the Designer Series software.; Published: 21-May-2003; LatestRevisionDate: 11-Dec-2009; LatestRevisionNote: Updated to datasheet version 3.2 Jun-2006.; DatasheetVersion: v3.2, Jun-2006; PackageVersion: ver11.2, Nov-2009; PackageReference: BG313; Publisher: Altium Limited; PackageDescription: 313-Ball Staggered Plastic Ball Grid Array (BG313); Code_JEDEC: MS-034; ComponentLink1Description: SX Datasheet; ComponentLink1URL: http://www.actel.com/documents/A54SX_DS.pdf; ComponentLink2Description: Package Mechanical Drawings; ComponentLink2URL: http://www.actel.com/documents/PckgMechDrwngs.pdf; ComponentLink3Description: SX Documents; ComponentLink3URL: http://www.actel.com/products/legacy/default.aspx#docs; ComponentLink4Description: Actel.com Home; ComponentLink4URL: http://www.actel.com/
footprint BG313 (BGA, Staggered, 313-Leads, Body 35x35mm, Pitch 1.27mm)
part A pins: A5 IO (io), A7 IO (io), A9 IO (io), A11 IO (io), A15 IO (io), A17 IO (io), A19 IO (io), A21 IO (io), AA1 IO (io), AA3 IO (io), AA7 IO (io), AA11 IO (io), AA13 IO (io), AA15 IO (io), AA17 IO (io), AA19 IO (io), AA21 IO (io), AA25 IO (io), AB6 IO (io), AB8 IO (io), AB10 IO (io), AB12 IO (io), AB14 IO (io), AB16 IO (io), AB22 IO (io), AB24 IO (io), AC1 IO (io), AC3 IO (io), AC5 IO (io), AC7 IO (io), AC9 IO (io), AC11 IO (io), AC15 IO (io), AC17 IO (io), AC19 IO (io), AC21 IO (io), AC23 IO (io), AD4 IO (io), AD8 IO (io), AD10 IO (io), AD12 PRB/IO (io), AD14 IO (io), AD16 IO (io), AD18 IO (io), AD20 IO (io), AD24 IO (io), AE3 IO (io), AE5 IO (io), AE7 IO (io), AE9 IO (io), AE11 IO (io), AE15 IO (io), AE17 IO (io), AE19 IO (io), AE21 IO (io), AE23 TDO/IO (io), B2 TCK/IO (io), B4 IO (io), B6 IO (io), B8 IO (io), B10 IO (io), B12 IO (io), B14 IO (io), B16 IO (io), B18 IO (io), B20 IO (io), B22 IO (io), B24 IO (io), C1 TDI/IO (io), C3 IO (io), C7 IO (io), C9 IO (io), C11 IO (io), C15 IO (io), C17 IO (io), C21 IO (io), C23 IO (io), D2 IO (io), D6 IO (io), D8 IO (io), D10 IO (io), D12 IO (io), D14 IO (io), D16 IO (io), D18 IO (io), D20 IO (io), D22 IO (io), E1 IO (io), E5 IO (io), E7 IO (io), E9 IO (io), E11 IO (io), E15 IO (io), E17 IO (io), E19 IO (io), E21 IO (io), E23 IO (io), E25 IO (io), F2 IO (io), F4 IO (io), F8 IO (io), F12 IO (io), F14 IO (io), F18 IO (io), F20 IO (io), F22 IO (io), F24 IO (io), G1 IO (io), G3 TMS (in), G5 IO (io), G7 IO (io), G11 IO (io), G13 CLKB (in), G15 IO (io), G17 IO (io), G19 IO (io), G21 IO (io), G23 IO (io), H12 PRA/IO (io), J13 CLKA (in), T14 HCLK (in)
part B pins: G25 IO (io), H2 IO (io), H4 IO (io), H6 IO (io), H8 IO (io), H10 IO (io), H14 IO (io), H16 IO (io), H20 IO (io), H24 IO (io), J1 IO (io), J3 IO (io), J5 IO (io), J9 IO (io), J11 IO (io), J15 IO (io), J17 IO (io), J19 IO (io), J23 IO (io), J25 IO (io), K2 IO (io), K4 IO (io), K6 IO (io), K10 IO (io), K12 IO (io), K14 IO (io), K16 IO (io), K18 IO (io), K22 IO (io), K24 IO (io), L1 IO (io), L3 IO (io), L5 IO (io), L7 IO (io), L9 IO (io), L11 IO (io), L15 IO (io), L17 IO (io), L19 IO (io), L21 IO (io), L23 IO (io), L25 IO (io), M2 IO (io), M4 IO (io), M6 IO (io), M8 IO (io), M10 IO (io), M18 IO (io), M20 IO (io), M22 IO (io), M24 IO (io), N1 IO (io), N7 IO (io), N17 IO (io), N19 IO (io), N21 IO (io), P2 IO (io), P4 IO (io), P6 IO (io), P8 IO (io), P10 IO (io), P16 IO (io), P18 IO (io), P22 IO (io), P24 IO (io), R1 IO (io), R3 IO (io), R5 IO (io), R7 IO (io), R9 IO (io), R11 IO (io), R15 IO (io), R17 IO (io), R19 IO (io), R21 IO (io), R23 IO (io), R25 IO (io), T2 IO (io), T4 IO (io), T6 IO (io), T8 IO (io), T10 IO (io), T12 IO (io), T16 IO (io), T18 IO (io), T20 IO (io), T22 IO (io), T24 IO (io), U1 IO (io), U3 IO (io), U7 IO (io), U9 IO (io), U11 IO (io), U13 IO (io), U15 IO (io), U17 IO (io), U19 IO (io), U21 IO (io), U23 IO (io), U25 IO (io), V4 IO (io), V6 IO (io), V8 IO (io), V10 IO (io), V12 IO (io), V14 IO (io), V18 IO (io), V20 IO (io), W1 IO (io), W3 IO (io), W5 IO (io), W9 IO (io), W11 IO (io), W15 IO (io), W17 IO (io), W19 IO (io), W21 IO (io), W23 IO (io), W25 IO (io), Y2 IO (io), Y4 IO (io), Y6 IO (io), Y8 IO (io), Y10 IO (io), Y12 IO (io), Y14 IO (io), Y16 IO (io), Y18 IO (io), Y22 IO (io)
part C pins: A1 GND (power), A3 NC, A13 VCCR (power), A23 NC, A25 GND (power), AA5 NC, AA9 NC, AA23 NC, AB2 NC, AB4 NC, AB18 VCCI (power), AB20 NC, AC13 VCCR (power), AC25 NC, AD2 GND (power), AD6 VCCI (power), AD22 NC, AE1 NC, AE13 VCCA (power), AE25 GND (power), C5 NC, C13 VCCI (power), C19 VCCI (power), C25 NC, D4 NC, D24 NC, E3 NC, E13 VCCA (power), F6 NC, F10 NC, F16 NC, G9 VCCI (power), H18 NC, H22 VCCI (power), J7 NC, J21 GND (power), K8 VCCI (power), K20 VCCA (power), L13 GND (power), M12 GND (power), M14 GND (power), M16 VCCI (power), N3 VCCA (power), N5 VCCR (power), N9 VCCI (power), N11 GND (power), N13 GND (power), N15 GND (power), N23 VCCR (power), N25 VCCA (power), P12 GND (power), P14 GND (power), P20 NC, R13 GND (power), U5 VCCI (power), V2 VCCA (power), V16 NC, V22 VCCA (power), V24 VCCI (power), W7 NC, W13 VCCI (power), Y20 NC, Y24 NC

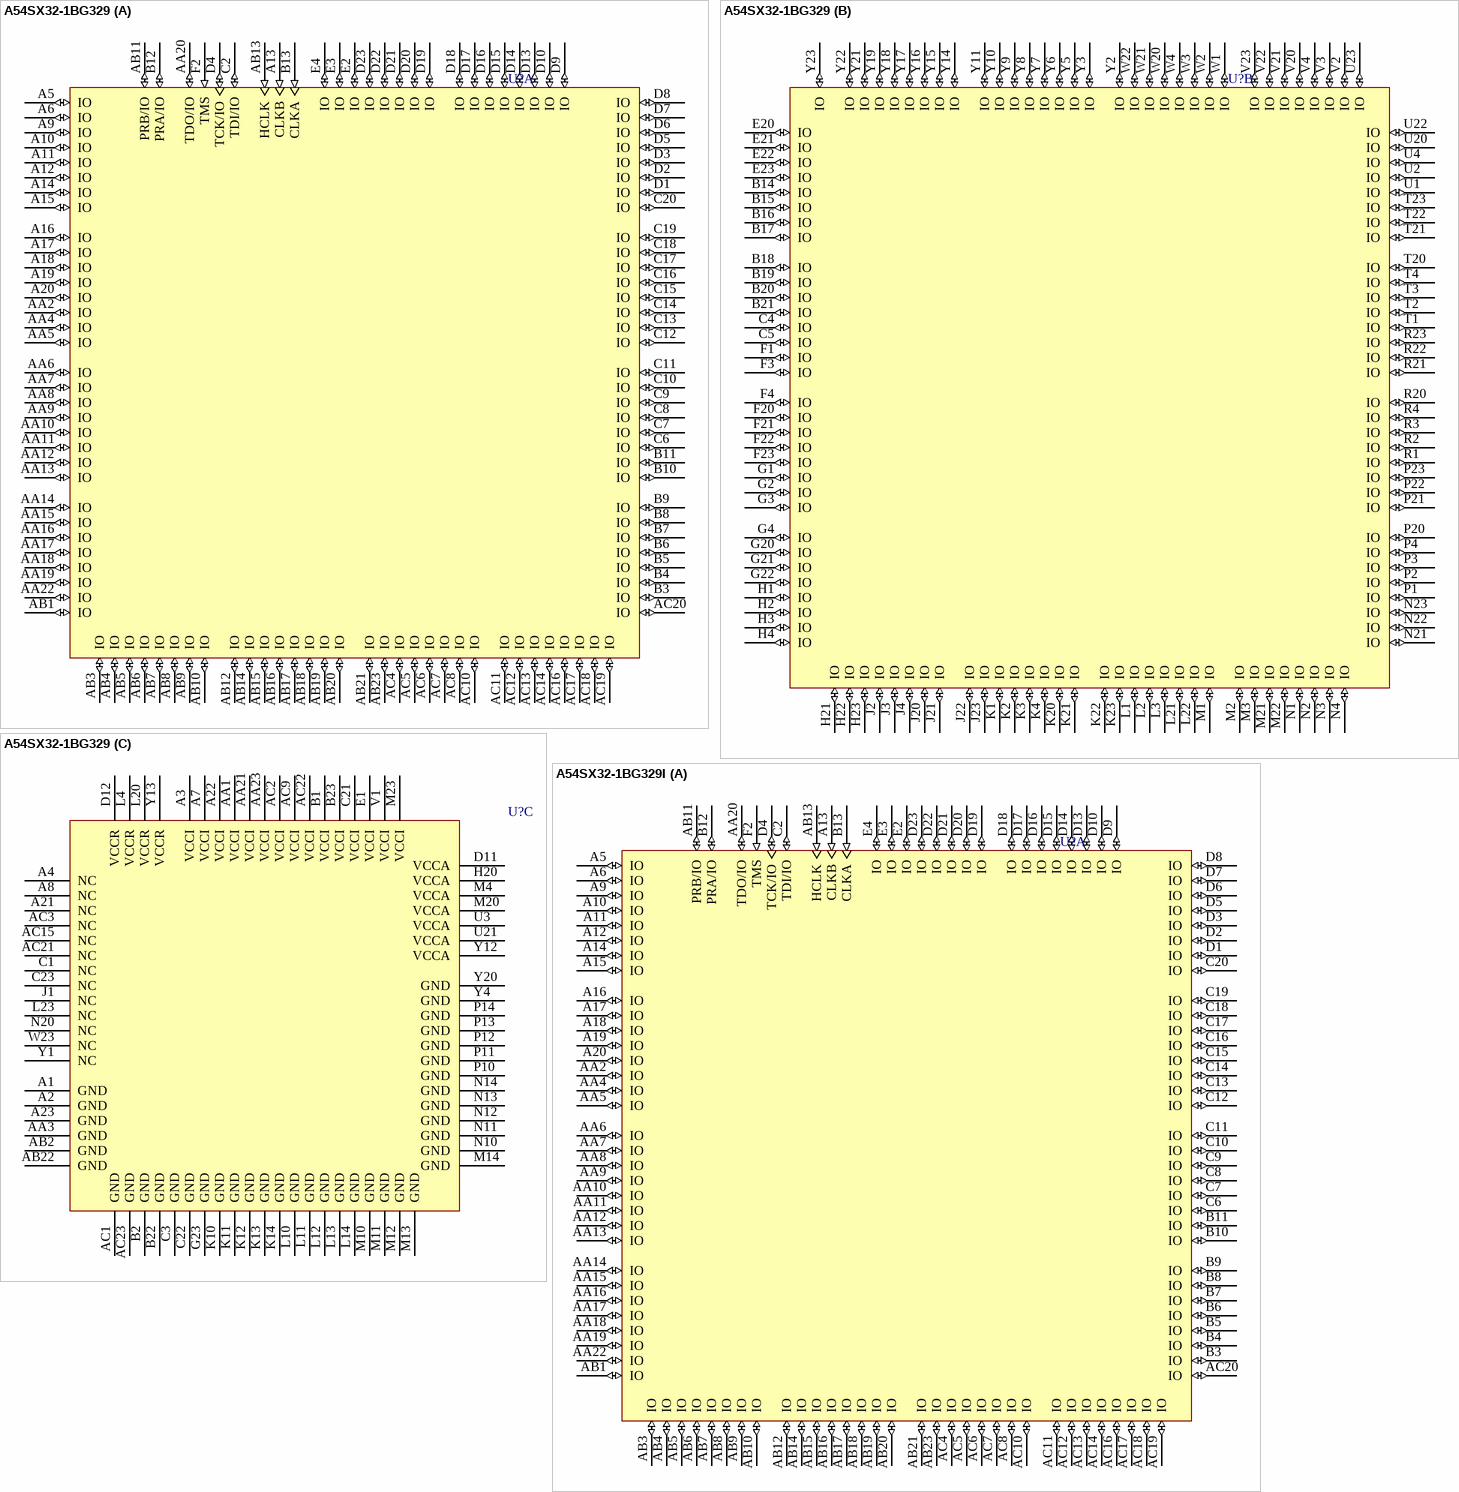
[diagram p146: symbols A54SX32-1BG329 to A54SX32-1BG329I]

## A54SX32-1BG329
designator U?
54SX32 FPGA, 249 User IOs, 329-Pin PBGA, Speed Grade 1, Commercial Grade; Note: Unused I/O Pins are automatically tristated by the Designer Series software.; Published: 21-May-2003; LatestRevisionDate: 11-Dec-2009; LatestRevisionNote: Updated to datasheet version 3.2 Jun-2006.; DatasheetVersion: v3.2, Jun-2006; PackageVersion: ver11.2, Nov-2009; PackageReference: BG329; Publisher: Altium Limited; PackageDescription: 329-Ball Plastic Ball Grid Array (BG329); Code_JEDEC: MS-034-BAN-2; ComponentLink1Description: SX Datasheet; ComponentLink1URL: http://www.actel.com/documents/A54SX_DS.pdf; ComponentLink2Description: Package Mechanical Drawings; ComponentLink2URL: http://www.actel.com/documents/PckgMechDrwngs.pdf; ComponentLink3Description: SX Documents; ComponentLink3URL: http://www.actel.com/products/legacy/default.aspx#docs; ComponentLink4Description: Actel.com Home; ComponentLink4URL: http://www.actel.com/
footprint BG329 (BGA, 329-Leads, Body 31x31mm, Pitch 1.27mm)
part A pins: A5 IO (io), A6 IO (io), A9 IO (io), A10 IO (io), A11 IO (io), A12 IO (io), A13 CLKB (in), A14 IO (io), A15 IO (io), A16 IO (io), A17 IO (io), A18 IO (io), A19 IO (io), A20 IO (io), AA2 IO (io), AA4 IO (io), AA5 IO (io), AA6 IO (io), AA7 IO (io), AA8 IO (io), AA9 IO (io), AA10 IO (io), AA11 IO (io), AA12 IO (io), AA13 IO (io), AA14 IO (io), AA15 IO (io), AA16 IO (io), AA17 IO (io), AA18 IO (io), AA19 IO (io), AA20 TDO/IO (io), AA22 IO (io), AB1 IO (io), AB3 IO (io), AB4 IO (io), AB5 IO (io), AB6 IO (io), AB7 IO (io), AB8 IO (io), AB9 IO (io), AB10 IO (io), AB11 PRB/IO (io), AB12 IO (io), AB13 HCLK (in), AB14 IO (io), AB15 IO (io), AB16 IO (io), AB17 IO (io), AB18 IO (io), AB19 IO (io), AB20 IO (io), AB21 IO (io), AB23 IO (io), AC4 IO (io), AC5 IO (io), AC6 IO (io), AC7 IO (io), AC8 IO (io), AC10 IO (io), AC11 IO (io), AC12 IO (io), AC13 IO (io), AC14 IO (io), AC16 IO (io), AC17 IO (io), AC18 IO (io), AC19 IO (io), AC20 IO (io), B3 IO (io), B4 IO (io), B5 IO (io), B6 IO (io), B7 IO (io), B8 IO (io), B9 IO (io), B10 IO (io), B11 IO (io), B12 PRA/IO (io), B13 CLKA (in), C2 TDI/IO (io), C6 IO (io), C7 IO (io), C8 IO (io), C9 IO (io), C10 IO (io), C11 IO (io), C12 IO (io), C13 IO (io), C14 IO (io), C15 IO (io), C16 IO (io), C17 IO (io), C18 IO (io), C19 IO (io), C20 IO (io), D1 IO (io), D2 IO (io), D3 IO (io), D4 TCK/IO (io), D5 IO (io), D6 IO (io), D7 IO (io), D8 IO (io), D9 IO (io), D10 IO (io), D13 IO (io), D14 IO (io), D15 IO (io), D16 IO (io), D17 IO (io), D18 IO (io), D19 IO (io), D20 IO (io), D21 IO (io), D22 IO (io), D23 IO (io), E2 IO (io), E3 IO (io), E4 IO (io), F2 TMS (in)
part B pins: B14 IO (io), B15 IO (io), B16 IO (io), B17 IO (io), B18 IO (io), B19 IO (io), B20 IO (io), B21 IO (io), C4 IO (io), C5 IO (io), E20 IO (io), E21 IO (io), E22 IO (io), E23 IO (io), F1 IO (io), F3 IO (io), F4 IO (io), F20 IO (io), F21 IO (io), F22 IO (io), F23 IO (io), G1 IO (io), G2 IO (io), G3 IO (io), G4 IO (io), G20 IO (io), G21 IO (io), G22 IO (io), H1 IO (io), H2 IO (io), H3 IO (io), H4 IO (io), H21 IO (io), H22 IO (io), H23 IO (io), J2 IO (io), J3 IO (io), J4 IO (io), J20 IO (io), J21 IO (io), J22 IO (io), J23 IO (io), K1 IO (io), K2 IO (io), K3 IO (io), K4 IO (io), K20 IO (io), K21 IO (io), K22 IO (io), K23 IO (io), L1 IO (io), L2 IO (io), L3 IO (io), L21 IO (io), L22 IO (io), M1 IO (io), M2 IO (io), M3 IO (io), M21 IO (io), M22 IO (io), N1 IO (io), N2 IO (io), N3 IO (io), N4 IO (io), N21 IO (io), N22 IO (io), N23 IO (io), P1 IO (io), P2 IO (io), P3 IO (io), P4 IO (io), P20 IO (io), P21 IO (io), P22 IO (io), P23 IO (io), R1 IO (io), R2 IO (io), R3 IO (io), R4 IO (io), R20 IO (io), R21 IO (io), R22 IO (io), R23 IO (io), T1 IO (io), T2 IO (io), T3 IO (io), T4 IO (io), T20 IO (io), T21 IO (io), T22 IO (io), T23 IO (io), U1 IO (io), U2 IO (io), U4 IO (io), U20 IO (io), U22 IO (io), U23 IO (io), V2 IO (io), V3 IO (io), V4 IO (io), V20 IO (io), V21 IO (io), V22 IO (io), V23 IO (io), W1 IO (io), W2 IO (io), W3 IO (io), W4 IO (io), W20 IO (io), W21 IO (io), W22 IO (io), Y2 IO (io), Y3 IO (io), Y5 IO (io), Y6 IO (io), Y7 IO (io), Y8 IO (io), Y9 IO (io), Y10 IO (io), Y11 IO (io), Y14 IO (io), Y15 IO (io), Y16 IO (io), Y17 IO (io), Y18 IO (io), Y19 IO (io), Y21 IO (io), Y22 IO (io), Y23 IO (io)
part C pins: A1 GND (power), A2 GND (power), A3 VCCI (power), A4 NC, A7 VCCI (power), A8 NC, A21 NC, A22 VCCI (power), A23 GND (power), AA1 VCCI (power), AA3 GND (power), AA21 VCCI (power), AA23 VCCI (power), AB2 GND (power), AB22 GND (power), AC1 GND (power), AC2 VCCI (power), AC3 NC, AC9 VCCI (power), AC15 NC, AC21 NC, AC22 VCCI (power), AC23 GND (power), B1 VCCI (power), B2 GND (power), B22 GND (power), B23 VCCI (power), C1 NC, C3 GND (power), C21 VCCI (power), C22 GND (power), C23 NC, D11 VCCA (power), D12 VCCR (power), E1 VCCI (power), G23 GND (power), H20 VCCA (power), J1 NC, K10 GND (power), K11 GND (power), K12 GND (power), K13 GND (power), K14 GND (power), L4 VCCR (power), L10 GND (power), L11 GND (power), L12 GND (power), L13 GND (power), L14 GND (power), L20 VCCR (power), L23 NC, M4 VCCA (power), M10 GND (power), M11 GND (power), M12 GND (power), M13 GND (power), M14 GND (power), M20 VCCA (power), M23 VCCI (power), N10 GND (power), N11 GND (power), N12 GND (power), N13 GND (power), N14 GND (power), N20 NC, P10 GND (power), P11 GND (power), P12 GND (power), P13 GND (power), P14 GND (power), U3 VCCA (power), U21 VCCA (power), V1 VCCI (power), W23 NC, Y1 NC, Y4 GND (power), Y12 VCCA (power), Y13 VCCR (power), Y20 GND (power)

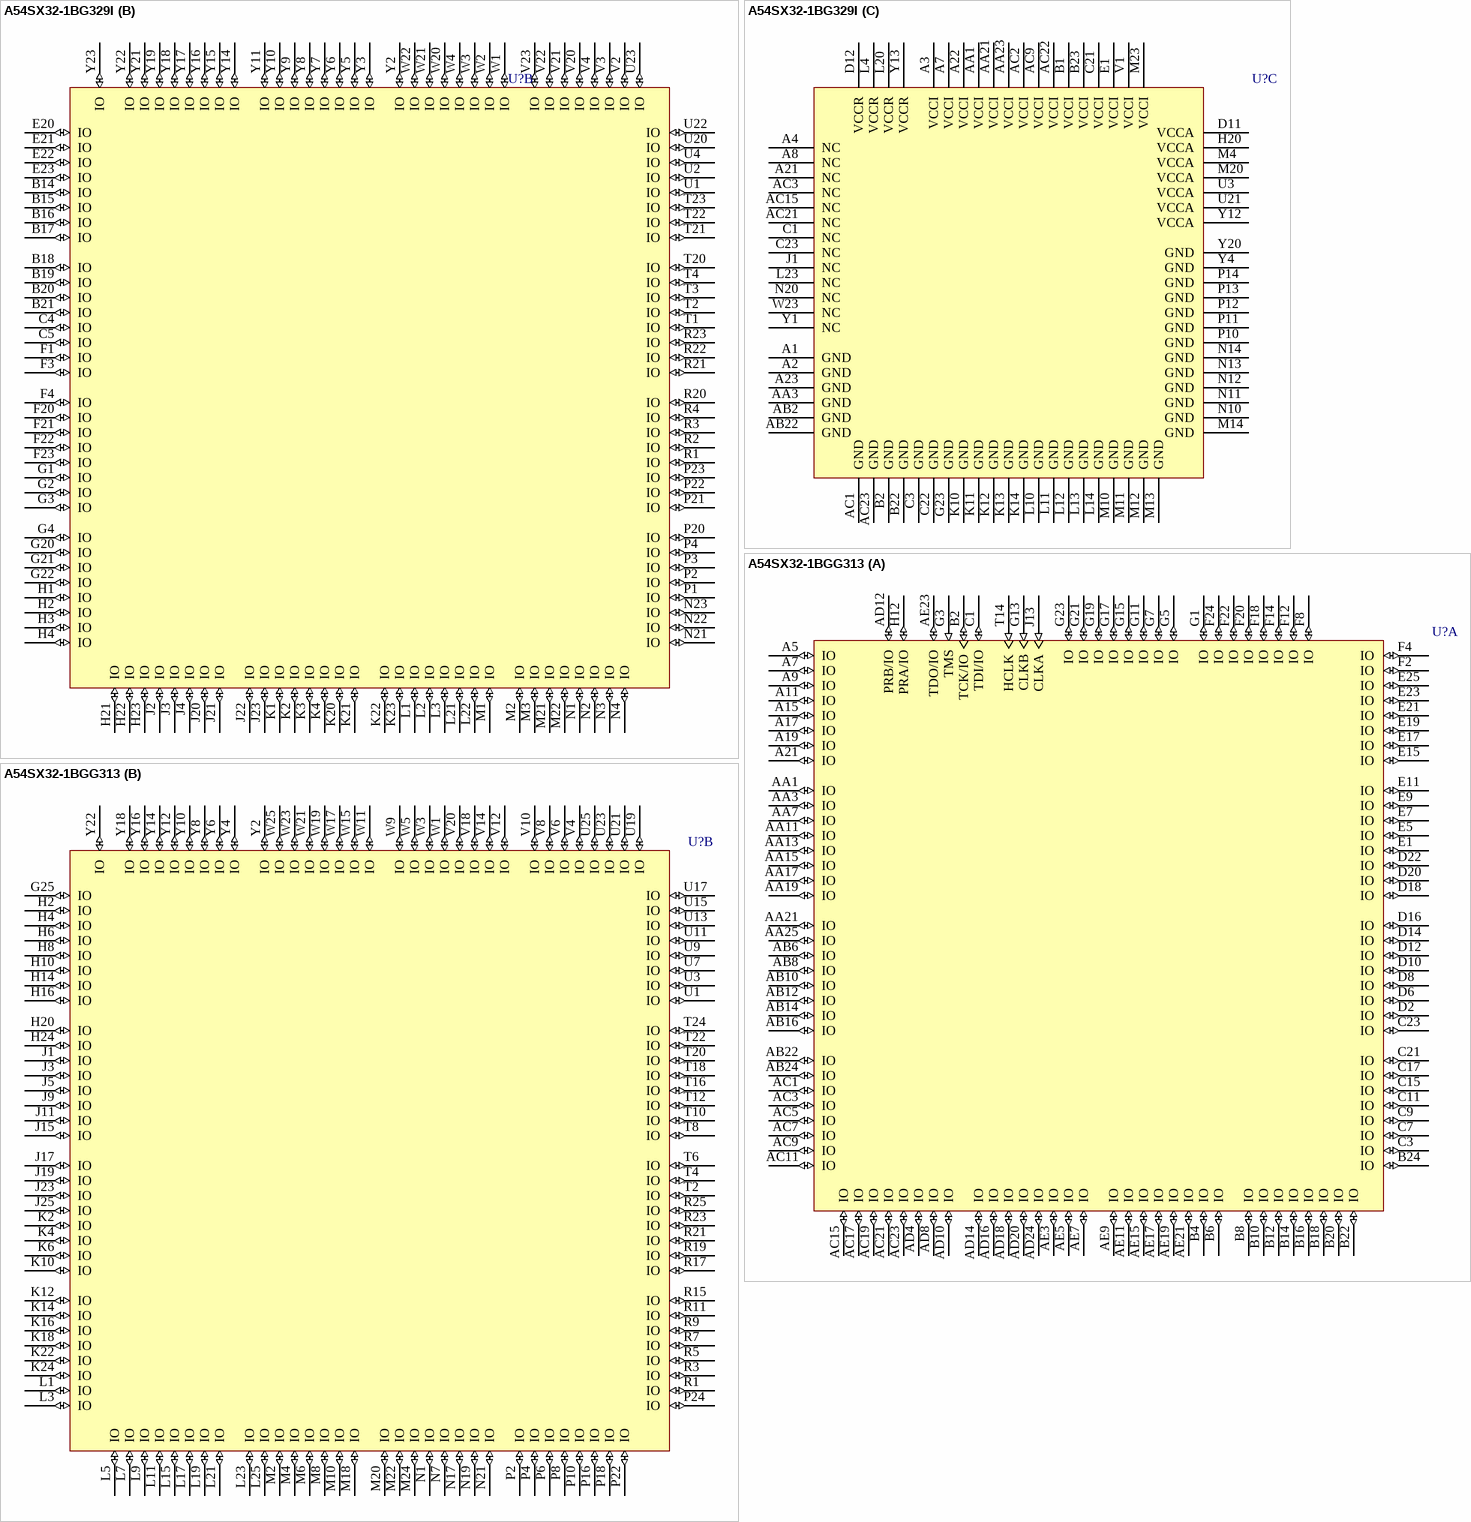
[diagram p147: symbols A54SX32-1BG329I to A54SX32-1BGG313]

## A54SX32-1BG329I
designator U?
54SX32 FPGA, 249 User IOs, 329-Pin PBGA, Speed Grade 1, Industrial Grade; Note: Unused I/O Pins are automatically tristated by the Designer Series software.; Published: 21-May-2003; LatestRevisionDate: 11-Dec-2009; LatestRevisionNote: Updated to datasheet version 3.2 Jun-2006.; DatasheetVersion: v3.2, Jun-2006; PackageVersion: ver11.2, Nov-2009; PackageReference: BG329; Publisher: Altium Limited; PackageDescription: 329-Ball Plastic Ball Grid Array (BG329); Code_JEDEC: MS-034-BAN-2; ComponentLink1Description: SX Datasheet; ComponentLink1URL: http://www.actel.com/documents/A54SX_DS.pdf; ComponentLink2Description: Package Mechanical Drawings; ComponentLink2URL: http://www.actel.com/documents/PckgMechDrwngs.pdf; ComponentLink3Description: SX Documents; ComponentLink3URL: http://www.actel.com/products/legacy/default.aspx#docs; ComponentLink4Description: Actel.com Home; ComponentLink4URL: http://www.actel.com/
footprint BG329 (BGA, 329-Leads, Body 31x31mm, Pitch 1.27mm)
part A pins: A5 IO (io), A6 IO (io), A9 IO (io), A10 IO (io), A11 IO (io), A12 IO (io), A13 CLKB (in), A14 IO (io), A15 IO (io), A16 IO (io), A17 IO (io), A18 IO (io), A19 IO (io), A20 IO (io), AA2 IO (io), AA4 IO (io), AA5 IO (io), AA6 IO (io), AA7 IO (io), AA8 IO (io), AA9 IO (io), AA10 IO (io), AA11 IO (io), AA12 IO (io), AA13 IO (io), AA14 IO (io), AA15 IO (io), AA16 IO (io), AA17 IO (io), AA18 IO (io), AA19 IO (io), AA20 TDO/IO (io), AA22 IO (io), AB1 IO (io), AB3 IO (io), AB4 IO (io), AB5 IO (io), AB6 IO (io), AB7 IO (io), AB8 IO (io), AB9 IO (io), AB10 IO (io), AB11 PRB/IO (io), AB12 IO (io), AB13 HCLK (in), AB14 IO (io), AB15 IO (io), AB16 IO (io), AB17 IO (io), AB18 IO (io), AB19 IO (io), AB20 IO (io), AB21 IO (io), AB23 IO (io), AC4 IO (io), AC5 IO (io), AC6 IO (io), AC7 IO (io), AC8 IO (io), AC10 IO (io), AC11 IO (io), AC12 IO (io), AC13 IO (io), AC14 IO (io), AC16 IO (io), AC17 IO (io), AC18 IO (io), AC19 IO (io), AC20 IO (io), B3 IO (io), B4 IO (io), B5 IO (io), B6 IO (io), B7 IO (io), B8 IO (io), B9 IO (io), B10 IO (io), B11 IO (io), B12 PRA/IO (io), B13 CLKA (in), C2 TDI/IO (io), C6 IO (io), C7 IO (io), C8 IO (io), C9 IO (io), C10 IO (io), C11 IO (io), C12 IO (io), C13 IO (io), C14 IO (io), C15 IO (io), C16 IO (io), C17 IO (io), C18 IO (io), C19 IO (io), C20 IO (io), D1 IO (io), D2 IO (io), D3 IO (io), D4 TCK/IO (io), D5 IO (io), D6 IO (io), D7 IO (io), D8 IO (io), D9 IO (io), D10 IO (io), D13 IO (io), D14 IO (io), D15 IO (io), D16 IO (io), D17 IO (io), D18 IO (io), D19 IO (io), D20 IO (io), D21 IO (io), D22 IO (io), D23 IO (io), E2 IO (io), E3 IO (io), E4 IO (io), F2 TMS (in)
part B pins: B14 IO (io), B15 IO (io), B16 IO (io), B17 IO (io), B18 IO (io), B19 IO (io), B20 IO (io), B21 IO (io), C4 IO (io), C5 IO (io), E20 IO (io), E21 IO (io), E22 IO (io), E23 IO (io), F1 IO (io), F3 IO (io), F4 IO (io), F20 IO (io), F21 IO (io), F22 IO (io), F23 IO (io), G1 IO (io), G2 IO (io), G3 IO (io), G4 IO (io), G20 IO (io), G21 IO (io), G22 IO (io), H1 IO (io), H2 IO (io), H3 IO (io), H4 IO (io), H21 IO (io), H22 IO (io), H23 IO (io), J2 IO (io), J3 IO (io), J4 IO (io), J20 IO (io), J21 IO (io), J22 IO (io), J23 IO (io), K1 IO (io), K2 IO (io), K3 IO (io), K4 IO (io), K20 IO (io), K21 IO (io), K22 IO (io), K23 IO (io), L1 IO (io), L2 IO (io), L3 IO (io), L21 IO (io), L22 IO (io), M1 IO (io), M2 IO (io), M3 IO (io), M21 IO (io), M22 IO (io), N1 IO (io), N2 IO (io), N3 IO (io), N4 IO (io), N21 IO (io), N22 IO (io), N23 IO (io), P1 IO (io), P2 IO (io), P3 IO (io), P4 IO (io), P20 IO (io), P21 IO (io), P22 IO (io), P23 IO (io), R1 IO (io), R2 IO (io), R3 IO (io), R4 IO (io), R20 IO (io), R21 IO (io), R22 IO (io), R23 IO (io), T1 IO (io), T2 IO (io), T3 IO (io), T4 IO (io), T20 IO (io), T21 IO (io), T22 IO (io), T23 IO (io), U1 IO (io), U2 IO (io), U4 IO (io), U20 IO (io), U22 IO (io), U23 IO (io), V2 IO (io), V3 IO (io), V4 IO (io), V20 IO (io), V21 IO (io), V22 IO (io), V23 IO (io), W1 IO (io), W2 IO (io), W3 IO (io), W4 IO (io), W20 IO (io), W21 IO (io), W22 IO (io), Y2 IO (io), Y3 IO (io), Y5 IO (io), Y6 IO (io), Y7 IO (io), Y8 IO (io), Y9 IO (io), Y10 IO (io), Y11 IO (io), Y14 IO (io), Y15 IO (io), Y16 IO (io), Y17 IO (io), Y18 IO (io), Y19 IO (io), Y21 IO (io), Y22 IO (io), Y23 IO (io)
part C pins: A1 GND (power), A2 GND (power), A3 VCCI (power), A4 NC, A7 VCCI (power), A8 NC, A21 NC, A22 VCCI (power), A23 GND (power), AA1 VCCI (power), AA3 GND (power), AA21 VCCI (power), AA23 VCCI (power), AB2 GND (power), AB22 GND (power), AC1 GND (power), AC2 VCCI (power), AC3 NC, AC9 VCCI (power), AC15 NC, AC21 NC, AC22 VCCI (power), AC23 GND (power), B1 VCCI (power), B2 GND (power), B22 GND (power), B23 VCCI (power), C1 NC, C3 GND (power), C21 VCCI (power), C22 GND (power), C23 NC, D11 VCCA (power), D12 VCCR (power), E1 VCCI (power), G23 GND (power), H20 VCCA (power), J1 NC, K10 GND (power), K11 GND (power), K12 GND (power), K13 GND (power), K14 GND (power), L4 VCCR (power), L10 GND (power), L11 GND (power), L12 GND (power), L13 GND (power), L14 GND (power), L20 VCCR (power), L23 NC, M4 VCCA (power), M10 GND (power), M11 GND (power), M12 GND (power), M13 GND (power), M14 GND (power), M20 VCCA (power), M23 VCCI (power), N10 GND (power), N11 GND (power), N12 GND (power), N13 GND (power), N14 GND (power), N20 NC, P10 GND (power), P11 GND (power), P12 GND (power), P13 GND (power), P14 GND (power), U3 VCCA (power), U21 VCCA (power), V1 VCCI (power), W23 NC, Y1 NC, Y4 GND (power), Y12 VCCA (power), Y13 VCCR (power), Y20 GND (power)

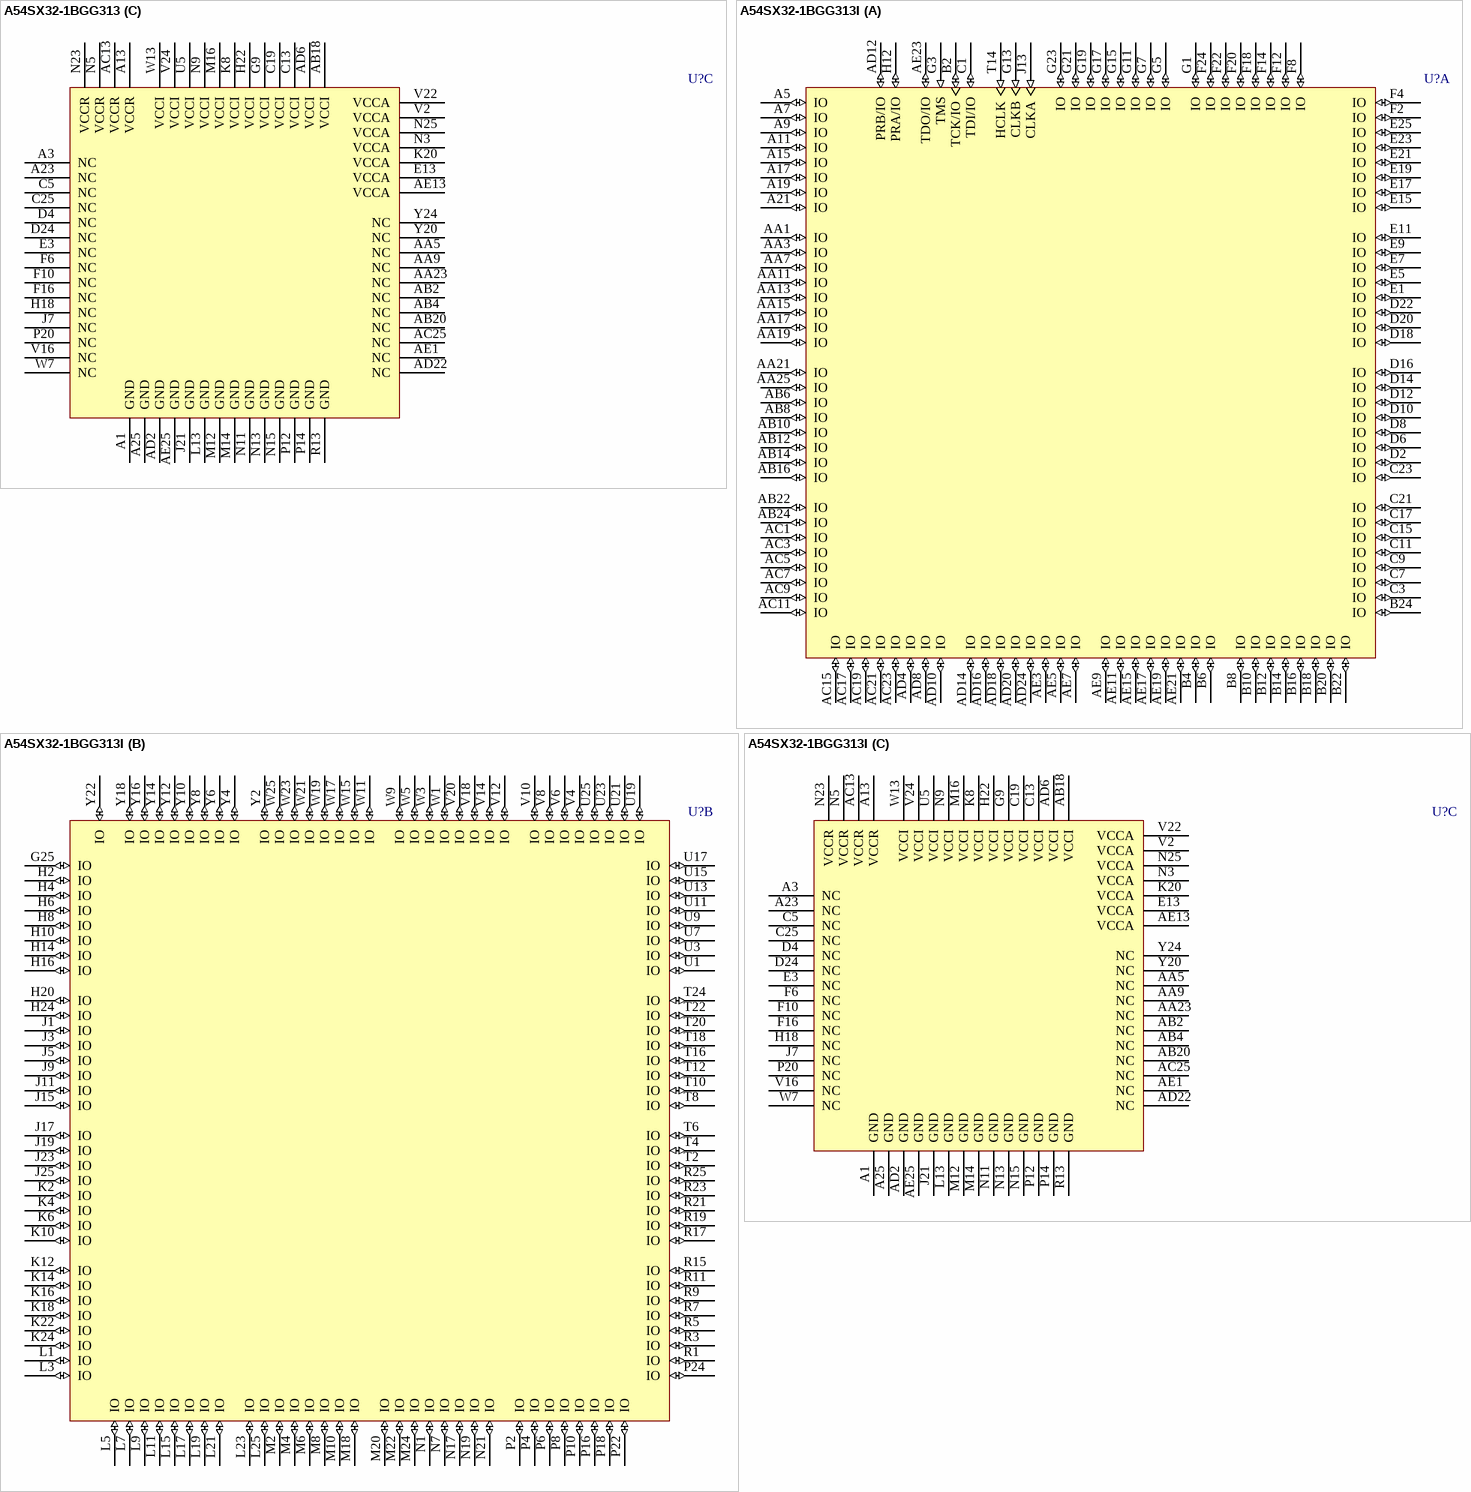
[diagram p148: symbols A54SX32-1BGG313 to A54SX32-1BGG313I]

## A54SX32-1BGG313
designator U?
54SX32 FPGA, 249 User IOs, 313-Pin PBGA, Speed Grade 1, Commercial Grade, Pb-Free; Note: Unused I/O Pins are automatically tristated by the Designer Series software.; Published: 11-Dec-2009; DatasheetVersion: v3.2, Jun-2006; PackageVersion: ver11.2, Nov-2009; PackageReference: BG313; Publisher: Altium Limited; PackageDescription: 313-Ball Staggered Plastic Ball Grid Array (BG313); Code_JEDEC: MS-034; ComponentLink1Description: SX Datasheet; ComponentLink1URL: http://www.actel.com/documents/A54SX_DS.pdf; ComponentLink2Description: Package Mechanical Drawings; ComponentLink2URL: http://www.actel.com/documents/PckgMechDrwngs.pdf; ComponentLink3Description: SX Documents; ComponentLink3URL: http://www.actel.com/products/legacy/default.aspx#docs; ComponentLink4Description: Actel.com Home; ComponentLink4URL: http://www.actel.com/
footprint BG313 (BGA, Staggered, 313-Leads, Body 35x35mm, Pitch 1.27mm)
part A pins: A5 IO (io), A7 IO (io), A9 IO (io), A11 IO (io), A15 IO (io), A17 IO (io), A19 IO (io), A21 IO (io), AA1 IO (io), AA3 IO (io), AA7 IO (io), AA11 IO (io), AA13 IO (io), AA15 IO (io), AA17 IO (io), AA19 IO (io), AA21 IO (io), AA25 IO (io), AB6 IO (io), AB8 IO (io), AB10 IO (io), AB12 IO (io), AB14 IO (io), AB16 IO (io), AB22 IO (io), AB24 IO (io), AC1 IO (io), AC3 IO (io), AC5 IO (io), AC7 IO (io), AC9 IO (io), AC11 IO (io), AC15 IO (io), AC17 IO (io), AC19 IO (io), AC21 IO (io), AC23 IO (io), AD4 IO (io), AD8 IO (io), AD10 IO (io), AD12 PRB/IO (io), AD14 IO (io), AD16 IO (io), AD18 IO (io), AD20 IO (io), AD24 IO (io), AE3 IO (io), AE5 IO (io), AE7 IO (io), AE9 IO (io), AE11 IO (io), AE15 IO (io), AE17 IO (io), AE19 IO (io), AE21 IO (io), AE23 TDO/IO (io), B2 TCK/IO (io), B4 IO (io), B6 IO (io), B8 IO (io), B10 IO (io), B12 IO (io), B14 IO (io), B16 IO (io), B18 IO (io), B20 IO (io), B22 IO (io), B24 IO (io), C1 TDI/IO (io), C3 IO (io), C7 IO (io), C9 IO (io), C11 IO (io), C15 IO (io), C17 IO (io), C21 IO (io), C23 IO (io), D2 IO (io), D6 IO (io), D8 IO (io), D10 IO (io), D12 IO (io), D14 IO (io), D16 IO (io), D18 IO (io), D20 IO (io), D22 IO (io), E1 IO (io), E5 IO (io), E7 IO (io), E9 IO (io), E11 IO (io), E15 IO (io), E17 IO (io), E19 IO (io), E21 IO (io), E23 IO (io), E25 IO (io), F2 IO (io), F4 IO (io), F8 IO (io), F12 IO (io), F14 IO (io), F18 IO (io), F20 IO (io), F22 IO (io), F24 IO (io), G1 IO (io), G3 TMS (in), G5 IO (io), G7 IO (io), G11 IO (io), G13 CLKB (in), G15 IO (io), G17 IO (io), G19 IO (io), G21 IO (io), G23 IO (io), H12 PRA/IO (io), J13 CLKA (in), T14 HCLK (in)
part B pins: G25 IO (io), H2 IO (io), H4 IO (io), H6 IO (io), H8 IO (io), H10 IO (io), H14 IO (io), H16 IO (io), H20 IO (io), H24 IO (io), J1 IO (io), J3 IO (io), J5 IO (io), J9 IO (io), J11 IO (io), J15 IO (io), J17 IO (io), J19 IO (io), J23 IO (io), J25 IO (io), K2 IO (io), K4 IO (io), K6 IO (io), K10 IO (io), K12 IO (io), K14 IO (io), K16 IO (io), K18 IO (io), K22 IO (io), K24 IO (io), L1 IO (io), L3 IO (io), L5 IO (io), L7 IO (io), L9 IO (io), L11 IO (io), L15 IO (io), L17 IO (io), L19 IO (io), L21 IO (io), L23 IO (io), L25 IO (io), M2 IO (io), M4 IO (io), M6 IO (io), M8 IO (io), M10 IO (io), M18 IO (io), M20 IO (io), M22 IO (io), M24 IO (io), N1 IO (io), N7 IO (io), N17 IO (io), N19 IO (io), N21 IO (io), P2 IO (io), P4 IO (io), P6 IO (io), P8 IO (io), P10 IO (io), P16 IO (io), P18 IO (io), P22 IO (io), P24 IO (io), R1 IO (io), R3 IO (io), R5 IO (io), R7 IO (io), R9 IO (io), R11 IO (io), R15 IO (io), R17 IO (io), R19 IO (io), R21 IO (io), R23 IO (io), R25 IO (io), T2 IO (io), T4 IO (io), T6 IO (io), T8 IO (io), T10 IO (io), T12 IO (io), T16 IO (io), T18 IO (io), T20 IO (io), T22 IO (io), T24 IO (io), U1 IO (io), U3 IO (io), U7 IO (io), U9 IO (io), U11 IO (io), U13 IO (io), U15 IO (io), U17 IO (io), U19 IO (io), U21 IO (io), U23 IO (io), U25 IO (io), V4 IO (io), V6 IO (io), V8 IO (io), V10 IO (io), V12 IO (io), V14 IO (io), V18 IO (io), V20 IO (io), W1 IO (io), W3 IO (io), W5 IO (io), W9 IO (io), W11 IO (io), W15 IO (io), W17 IO (io), W19 IO (io), W21 IO (io), W23 IO (io), W25 IO (io), Y2 IO (io), Y4 IO (io), Y6 IO (io), Y8 IO (io), Y10 IO (io), Y12 IO (io), Y14 IO (io), Y16 IO (io), Y18 IO (io), Y22 IO (io)
part C pins: A1 GND (power), A3 NC, A13 VCCR (power), A23 NC, A25 GND (power), AA5 NC, AA9 NC, AA23 NC, AB2 NC, AB4 NC, AB18 VCCI (power), AB20 NC, AC13 VCCR (power), AC25 NC, AD2 GND (power), AD6 VCCI (power), AD22 NC, AE1 NC, AE13 VCCA (power), AE25 GND (power), C5 NC, C13 VCCI (power), C19 VCCI (power), C25 NC, D4 NC, D24 NC, E3 NC, E13 VCCA (power), F6 NC, F10 NC, F16 NC, G9 VCCI (power), H18 NC, H22 VCCI (power), J7 NC, J21 GND (power), K8 VCCI (power), K20 VCCA (power), L13 GND (power), M12 GND (power), M14 GND (power), M16 VCCI (power), N3 VCCA (power), N5 VCCR (power), N9 VCCI (power), N11 GND (power), N13 GND (power), N15 GND (power), N23 VCCR (power), N25 VCCA (power), P12 GND (power), P14 GND (power), P20 NC, R13 GND (power), U5 VCCI (power), V2 VCCA (power), V16 NC, V22 VCCA (power), V24 VCCI (power), W7 NC, W13 VCCI (power), Y20 NC, Y24 NC